# Altium integrated library Lattice FPGA XP2.IntLib: 160 symbols (part 7 of 35)
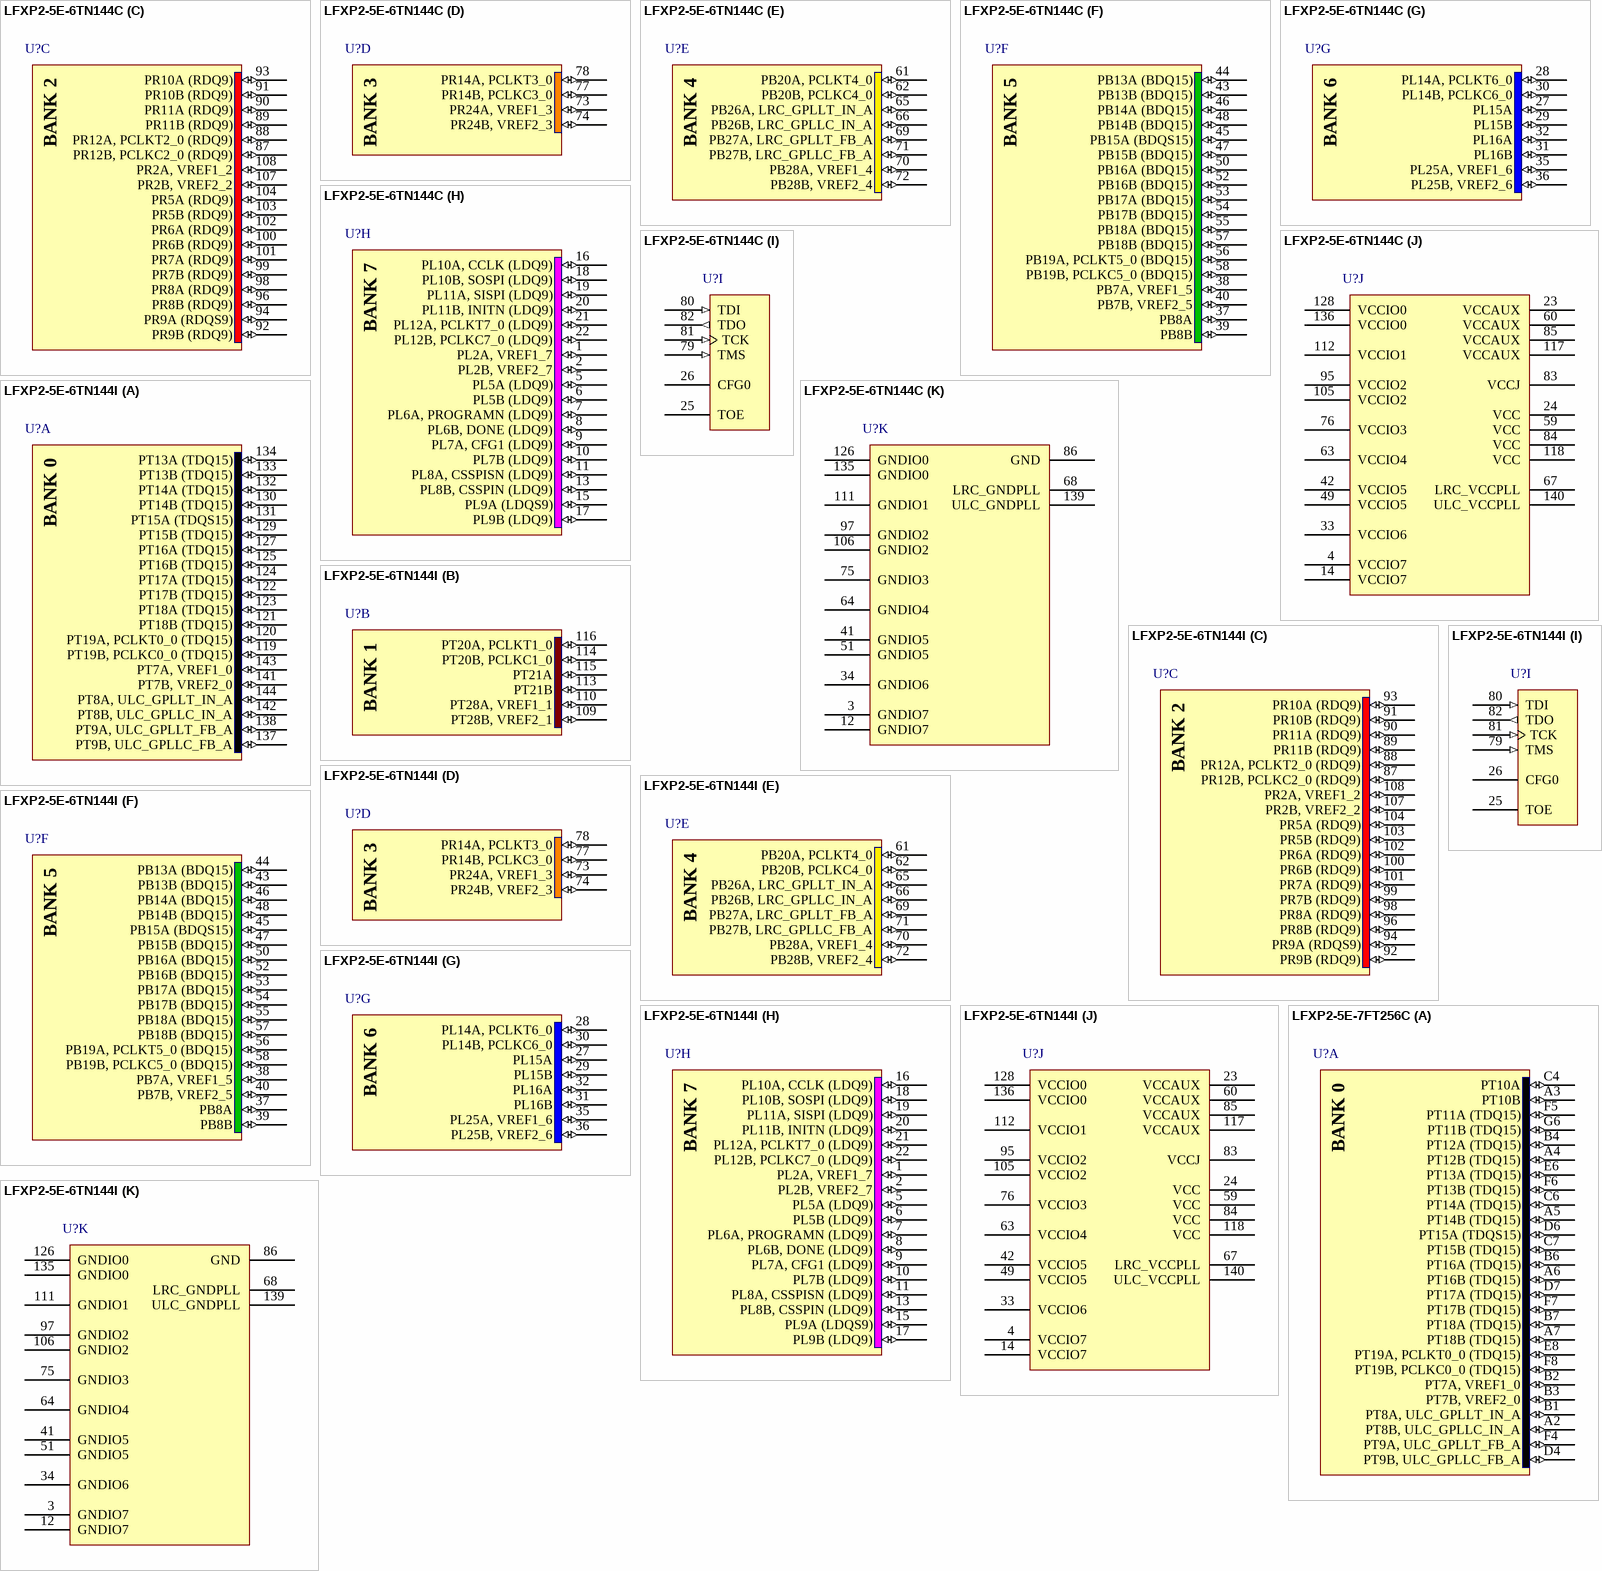
[diagram p176: symbols LFXP2-5E-6TN144C to LFXP2-5E-7FT256C]

## LFXP2-5E-6TN144I
designator U?
XP2, 1.2V FPGA, 100 I/Os, 5K LUTs, 144-Pin TQFP, Speed Grade 6, Industrial Grade, Pb-Free; DatasheetVersion: ver01.8, Jun-2008; PackageVersion: ver02.8, Jul-2011; PackageReference: TQFP144; PackageDescription: 144-Pin Thin Quad Flat Pack (TQFP144); Code_JEDEC: MS-026-BFB; ComponentLink1Description: Manufacturer URL; ComponentLink1URL: http://www.latticesemi.com/; ComponentLink2Description: Datasheet; ComponentLink2URL: http://www.latticesemi.com/documents/DS1009.pdf; ComponentLink3Description: Package Specification; ComponentLink3URL: http://www.latticesemi.com/lit/docs/package/pkg.pdf
footprint TQFP144_N (Thin QFP, 144-Leads, Body 20x20mm, Pitch 0.5mm, IPC Medium Density)
footprint TQFP144_L (Thin QFP, 144-Leads, Body 20x20mm, Pitch 0.5mm, IPC High Density)
footprint TQFP144_M (Thin QFP, 144-Leads, Body 20x20mm, Pitch 0.5mm, IPC Low Density)
part A pins: 119 PT19B, PCLKC0_0 (TDQ15) (io), 120 PT19A, PCLKT0_0 (TDQ15) (io), 121 PT18B (TDQ15) (io), 122 PT17B (TDQ15) (io), 123 PT18A (TDQ15) (io), 124 PT17A (TDQ15) (io), 125 PT16B (TDQ15) (io), 127 PT16A (TDQ15) (io), 129 PT15B (TDQ15) (io), 130 PT14B (TDQ15) (io), 131 PT15A (TDQS15) (io), 132 PT14A (TDQ15) (io), 133 PT13B (TDQ15) (io), 134 PT13A (TDQ15) (io), 137 PT9B, ULC_GPLLC_FB_A (io), 138 PT9A, ULC_GPLLT_FB_A (io), 141 PT7B, VREF2_0 (io), 142 PT8B, ULC_GPLLC_IN_A (io), 143 PT7A, VREF1_0 (io), 144 PT8A, ULC_GPLLT_IN_A (io)
part B pins: 109 PT28B, VREF2_1 (io), 110 PT28A, VREF1_1 (io), 113 PT21B (io), 114 PT20B, PCLKC1_0 (io), 115 PT21A (io), 116 PT20A, PCLKT1_0 (io)
part C pins: 87 PR12B, PCLKC2_0 (RDQ9) (io), 88 PR12A, PCLKT2_0 (RDQ9) (io), 89 PR11B (RDQ9) (io), 90 PR11A (RDQ9) (io), 91 PR10B (RDQ9) (io), 92 PR9B (RDQ9) (io), 93 PR10A (RDQ9) (io), 94 PR9A (RDQS9) (io), 96 PR8B (RDQ9) (io), 98 PR8A (RDQ9) (io), 99 PR7B (RDQ9) (io), 100 PR6B (RDQ9) (io), 101 PR7A (RDQ9) (io), 102 PR6A (RDQ9) (io), 103 PR5B (RDQ9) (io), 104 PR5A (RDQ9) (io), 107 PR2B, VREF2_2 (io), 108 PR2A, VREF1_2 (io)
part D pins: 73 PR24A, VREF1_3 (io), 74 PR24B, VREF2_3 (io), 77 PR14B, PCLKC3_0 (io), 78 PR14A, PCLKT3_0 (io)
part E pins: 61 PB20A, PCLKT4_0 (io), 62 PB20B, PCLKC4_0 (io), 65 PB26A, LRC_GPLLT_IN_A (io), 66 PB26B, LRC_GPLLC_IN_A (io), 69 PB27A, LRC_GPLLT_FB_A (io), 70 PB28A, VREF1_4 (io), 71 PB27B, LRC_GPLLC_FB_A (io), 72 PB28B, VREF2_4 (io)
part F pins: 37 PB8A (io), 38 PB7A, VREF1_5 (io), 39 PB8B (io), 40 PB7B, VREF2_5 (io), 43 PB13B (BDQ15) (io), 44 PB13A (BDQ15) (io), 45 PB15A (BDQS15) (io), 46 PB14A (BDQ15) (io), 47 PB15B (BDQ15) (io), 48 PB14B (BDQ15) (io), 50 PB16A (BDQ15) (io), 52 PB16B (BDQ15) (io), 53 PB17A (BDQ15) (io), 54 PB17B (BDQ15) (io), 55 PB18A (BDQ15) (io), 56 PB19A, PCLKT5_0 (BDQ15) (io), 57 PB18B (BDQ15) (io), 58 PB19B, PCLKC5_0 (BDQ15) (io)
part G pins: 27 PL15A (io), 28 PL14A, PCLKT6_0 (io), 29 PL15B (io), 30 PL14B, PCLKC6_0 (io), 31 PL16B (io), 32 PL16A (io), 35 PL25A, VREF1_6 (io), 36 PL25B, VREF2_6 (io)
part H pins: 1 PL2A, VREF1_7 (io), 2 PL2B, VREF2_7 (io), 5 PL5A (LDQ9) (io), 6 PL5B (LDQ9) (io), 7 PL6A, PROGRAMN (LDQ9) (io), 8 PL6B, DONE (LDQ9) (io), 9 PL7A, CFG1 (LDQ9) (io), 10 PL7B (LDQ9) (io), 11 PL8A, CSSPISN (LDQ9) (io), 13 PL8B, CSSPIN (LDQ9) (io), 15 PL9A (LDQS9) (io), 16 PL10A, CCLK (LDQ9) (io), 17 PL9B (LDQ9) (io), 18 PL10B, SOSPI (LDQ9) (io), 19 PL11A, SISPI (LDQ9) (io), 20 PL11B, INITN (LDQ9) (io), 21 PL12A, PCLKT7_0 (LDQ9) (io), 22 PL12B, PCLKC7_0 (LDQ9) (io)
part I pins: 25 TOE, 26 CFG0, 79 TMS (in), 80 TDI (in), 81 TCK (in), 82 TDO (out)
part J pins: 4 VCCIO7 (power), 14 VCCIO7 (power), 23 VCCAUX (power), 24 VCC (power), 33 VCCIO6 (power), 42 VCCIO5 (power), 49 VCCIO5 (power), 59 VCC (power), 60 VCCAUX (power), 63 VCCIO4 (power), 67 LRC_VCCPLL (power), 76 VCCIO3 (power), 83 VCCJ (power), 84 VCC (power), 85 VCCAUX (power), 95 VCCIO2 (power), 105 VCCIO2 (power), 112 VCCIO1 (power), 117 VCCAUX (power), 118 VCC (power), 128 VCCIO0 (power), 136 VCCIO0 (power), 140 ULC_VCCPLL (power)
part K pins: 3 GNDIO7 (power), 12 GNDIO7 (power), 34 GNDIO6 (power), 41 GNDIO5 (power), 51 GNDIO5 (power), 64 GNDIO4 (power), 68 LRC_GNDPLL (power), 75 GNDIO3 (power), 86 GND (power), 97 GNDIO2 (power), 106 GNDIO2 (power), 111 GNDIO1 (power), 126 GNDIO0 (power), 135 GNDIO0 (power), 139 ULC_GNDPLL (power)
part A text: BANK 0
part B text: BANK 1
part C text: BANK 2
part D text: BANK 3
part E text: BANK 4
part F text: BANK 5
part G text: BANK 6
part H text: BANK 7

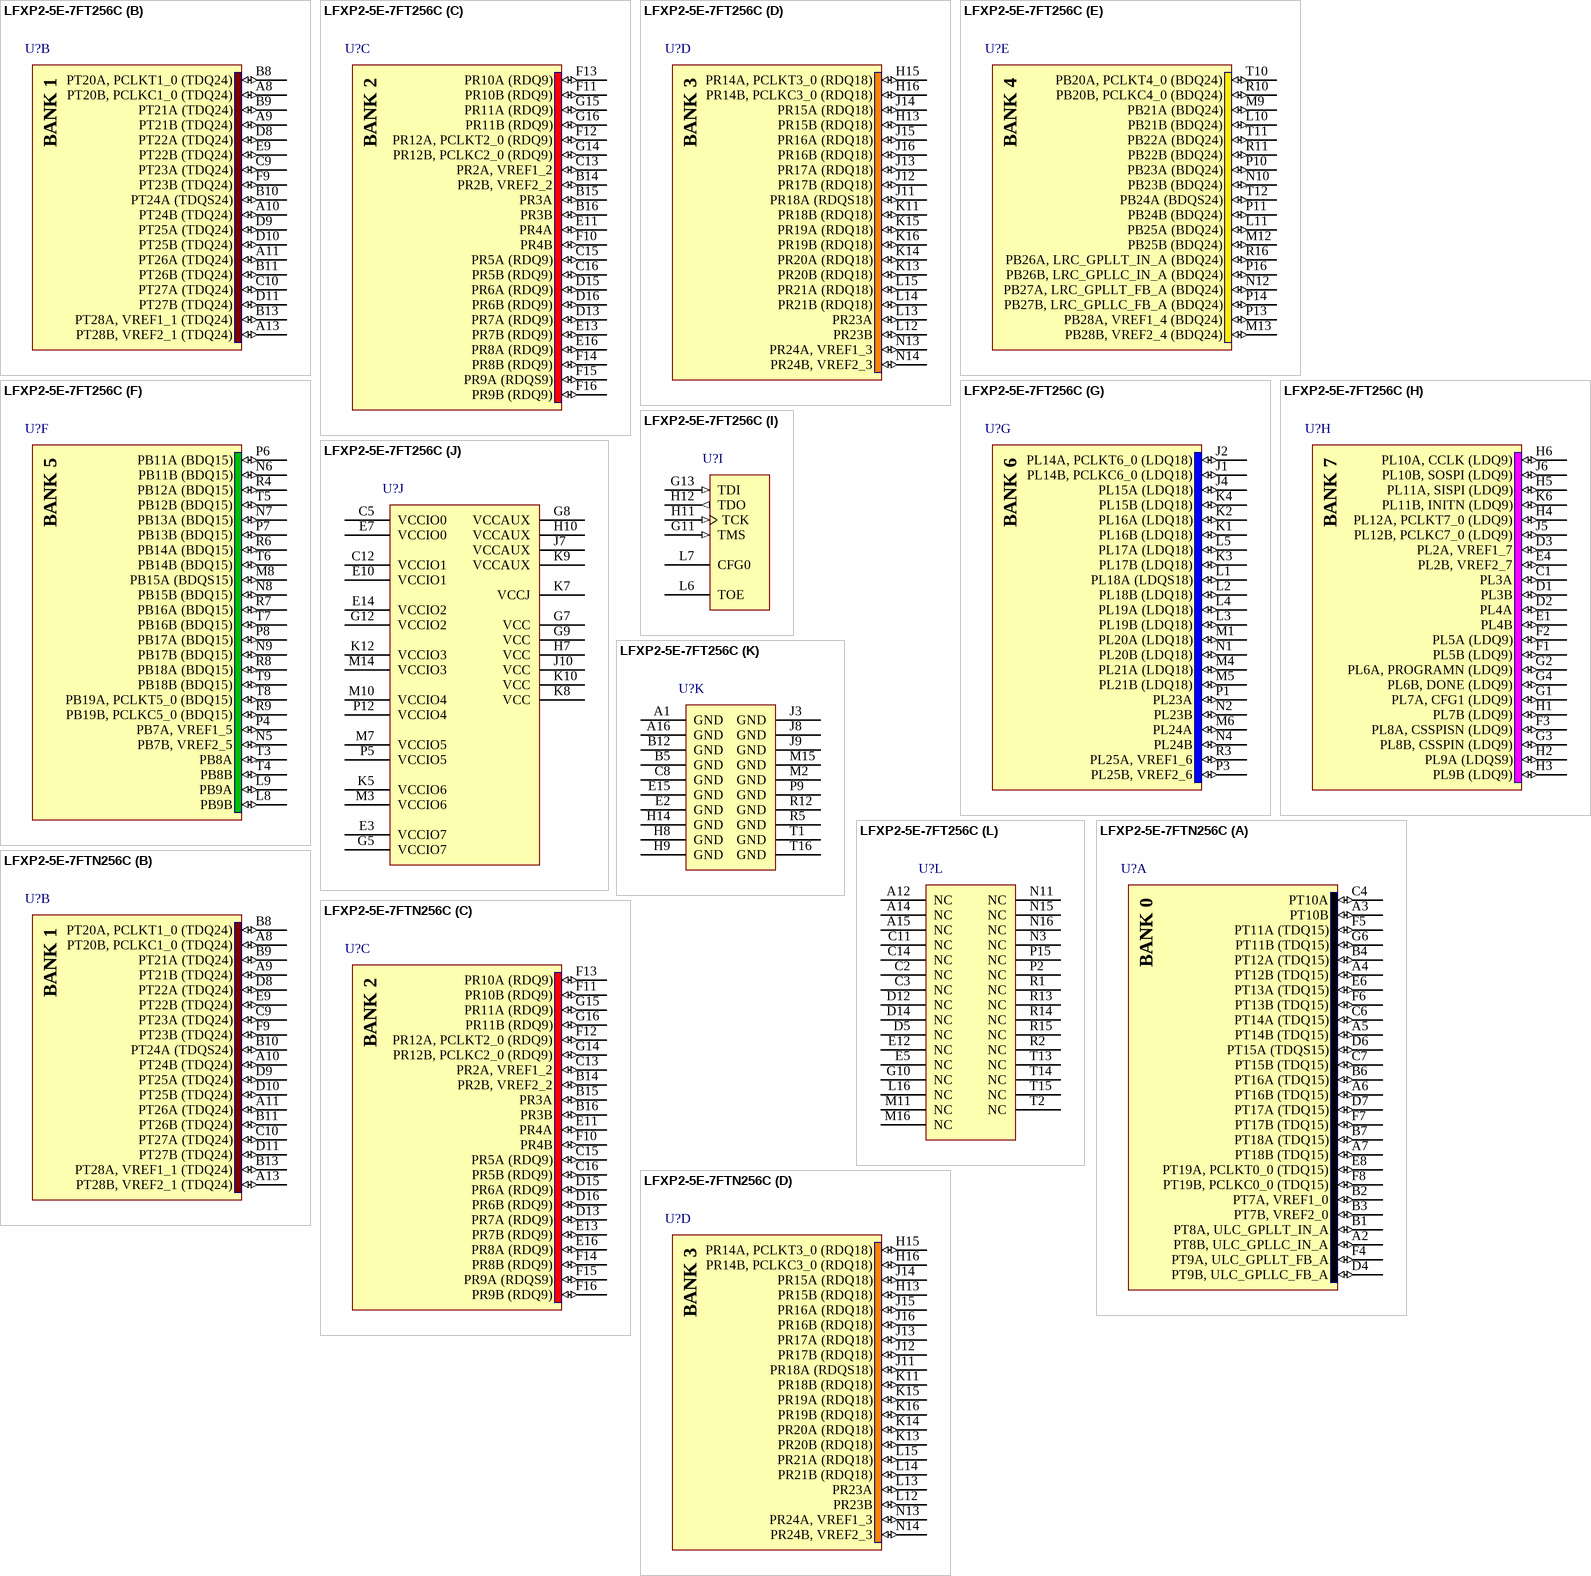
[diagram p20: symbols LFXP2-5E-7FT256C to LFXP2-5E-7FTN256C]

## LFXP2-5E-7FT256C
designator U?
XP2, 1.2V FPGA, 172 I/Os, 5K LUTs, 256-Pin ftBGA, Speed Grade 7, Commercial Grade; DatasheetVersion: ver01.8, Jun-2008; PackageVersion: ver02.8, Jul-2011; PackageReference: ftBGA256; PackageDescription: 256-Ball Fine Thin Ball Grid Array (ftBGA256); ComponentLink1Description: Manufacturer URL; ComponentLink1URL: http://www.latticesemi.com/; ComponentLink2Description: Datasheet; ComponentLink2URL: http://www.latticesemi.com/documents/DS1009.pdf; ComponentLink3Description: Package Specification; ComponentLink3URL: http://www.latticesemi.com/lit/docs/package/pkg.pdf
footprint ftBGA256 (BGA, 256-Leads, Body 17x17mm, Pitch 1mm)
part A pins: A2 PT8B, ULC_GPLLC_IN_A (io), A3 PT10B (io), A4 PT12B (TDQ15) (io), A5 PT14B (TDQ15) (io), A6 PT16B (TDQ15) (io), A7 PT18B (TDQ15) (io), B1 PT8A, ULC_GPLLT_IN_A (io), B2 PT7A, VREF1_0 (io), B3 PT7B, VREF2_0 (io), B4 PT12A (TDQ15) (io), B6 PT16A (TDQ15) (io), B7 PT18A (TDQ15) (io), C4 PT10A (io), C6 PT14A (TDQ15) (io), C7 PT15B (TDQ15) (io), D4 PT9B, ULC_GPLLC_FB_A (io), D6 PT15A (TDQS15) (io), D7 PT17A (TDQ15) (io), E6 PT13A (TDQ15) (io), E8 PT19A, PCLKT0_0 (TDQ15) (io), F4 PT9A, ULC_GPLLT_FB_A (io), F5 PT11A (TDQ15) (io), F6 PT13B (TDQ15) (io), F7 PT17B (TDQ15) (io), F8 PT19B, PCLKC0_0 (TDQ15) (io), G6 PT11B (TDQ15) (io)
part B pins: A8 PT20B, PCLKC1_0 (TDQ24) (io), A9 PT21B (TDQ24) (io), A10 PT24B (TDQ24) (io), A11 PT26A (TDQ24) (io), A13 PT28B, VREF2_1 (TDQ24) (io), B8 PT20A, PCLKT1_0 (TDQ24) (io), B9 PT21A (TDQ24) (io), B10 PT24A (TDQS24) (io), B11 PT26B (TDQ24) (io), B13 PT28A, VREF1_1 (TDQ24) (io), C9 PT23A (TDQ24) (io), C10 PT27A (TDQ24) (io), D8 PT22A (TDQ24) (io), D9 PT25A (TDQ24) (io), D10 PT25B (TDQ24) (io), D11 PT27B (TDQ24) (io), E9 PT22B (TDQ24) (io), F9 PT23B (TDQ24) (io)
part C pins: B14 PR2B, VREF2_2 (io), B15 PR3A (io), B16 PR3B (io), C13 PR2A, VREF1_2 (io), C15 PR5A (RDQ9) (io), C16 PR5B (RDQ9) (io), D13 PR7A (RDQ9) (io), D15 PR6A (RDQ9) (io), D16 PR6B (RDQ9) (io), E11 PR4A (io), E13 PR7B (RDQ9) (io), E16 PR8A (RDQ9) (io), F10 PR4B (io), F11 PR10B (RDQ9) (io), F12 PR12A, PCLKT2_0 (RDQ9) (io), F13 PR10A (RDQ9) (io), F14 PR8B (RDQ9) (io), F15 PR9A (RDQS9) (io), F16 PR9B (RDQ9) (io), G14 PR12B, PCLKC2_0 (RDQ9) (io), G15 PR11A (RDQ9) (io), G16 PR11B (RDQ9) (io)
part D pins: H13 PR15B (RDQ18) (io), H15 PR14A, PCLKT3_0 (RDQ18) (io), H16 PR14B, PCLKC3_0 (RDQ18) (io), J11 PR18A (RDQS18) (io), J12 PR17B (RDQ18) (io), J13 PR17A (RDQ18) (io), J14 PR15A (RDQ18) (io), J15 PR16A (RDQ18) (io), J16 PR16B (RDQ18) (io), K11 PR18B (RDQ18) (io), K13 PR20B (RDQ18) (io), K14 PR20A (RDQ18) (io), K15 PR19A (RDQ18) (io), K16 PR19B (RDQ18) (io), L12 PR23B (io), L13 PR23A (io), L14 PR21B (RDQ18) (io), L15 PR21A (RDQ18) (io), N13 PR24A, VREF1_3 (io), N14 PR24B, VREF2_3 (io)
part E pins: L10 PB21B (BDQ24) (io), L11 PB25A (BDQ24) (io), M9 PB21A (BDQ24) (io), M12 PB25B (BDQ24) (io), M13 PB28B, VREF2_4 (BDQ24) (io), N10 PB23B (BDQ24) (io), N12 PB27A, LRC_GPLLT_FB_A (BDQ24) (io), P10 PB23A (BDQ24) (io), P11 PB24B (BDQ24) (io), P13 PB28A, VREF1_4 (BDQ24) (io), P14 PB27B, LRC_GPLLC_FB_A (BDQ24) (io), P16 PB26B, LRC_GPLLC_IN_A (BDQ24) (io), R10 PB20B, PCLKC4_0 (BDQ24) (io), R11 PB22B (BDQ24) (io), R16 PB26A, LRC_GPLLT_IN_A (BDQ24) (io), T10 PB20A, PCLKT4_0 (BDQ24) (io), T11 PB22A (BDQ24) (io), T12 PB24A (BDQS24) (io)
part F pins: L8 PB9B (io), L9 PB9A (io), M8 PB15A (BDQS15) (io), N5 PB7B, VREF2_5 (io), N6 PB11B (BDQ15) (io), N7 PB13A (BDQ15) (io), N8 PB15B (BDQ15) (io), N9 PB17B (BDQ15) (io), P4 PB7A, VREF1_5 (io), P6 PB11A (BDQ15) (io), P7 PB13B (BDQ15) (io), P8 PB17A (BDQ15) (io), R4 PB12A (BDQ15) (io), R6 PB14A (BDQ15) (io), R7 PB16A (BDQ15) (io), R8 PB18A (BDQ15) (io), R9 PB19B, PCLKC5_0 (BDQ15) (io), T3 PB8A (io), T4 PB8B (io), T5 PB12B (BDQ15) (io), T6 PB14B (BDQ15) (io), T7 PB16B (BDQ15) (io), T8 PB19A, PCLKT5_0 (BDQ15) (io), T9 PB18B (BDQ15) (io)
part G pins: J1 PL14B, PCLKC6_0 (LDQ18) (io), J2 PL14A, PCLKT6_0 (LDQ18) (io), J4 PL15A (LDQ18) (io), K1 PL16B (LDQ18) (io), K2 PL16A (LDQ18) (io), K3 PL17B (LDQ18) (io), K4 PL15B (LDQ18) (io), L1 PL18A (LDQS18) (io), L2 PL18B (LDQ18) (io), L3 PL19B (LDQ18) (io), L4 PL19A (LDQ18) (io), L5 PL17A (LDQ18) (io), M1 PL20A (LDQ18) (io), M4 PL21A (LDQ18) (io), M5 PL21B (LDQ18) (io), M6 PL24A (io), N1 PL20B (LDQ18) (io), N2 PL23B (io), N4 PL24B (io), P1 PL23A (io), P3 PL25B, VREF2_6 (io), R3 PL25A, VREF1_6 (io)
part H pins: C1 PL3A (io), D1 PL3B (io), D2 PL4A (io), D3 PL2A, VREF1_7 (io), E1 PL4B (io), E4 PL2B, VREF2_7 (io), F1 PL5B (LDQ9) (io), F2 PL5A (LDQ9) (io), F3 PL8A, CSSPISN (LDQ9) (io), G1 PL7A, CFG1 (LDQ9) (io), G2 PL6A, PROGRAMN (LDQ9) (io), G3 PL8B, CSSPIN (LDQ9) (io), G4 PL6B, DONE (LDQ9) (io), H1 PL7B (LDQ9) (io), H2 PL9A (LDQS9) (io), H3 PL9B (LDQ9) (io), H4 PL12A, PCLKT7_0 (LDQ9) (io), H5 PL11A, SISPI (LDQ9) (io), H6 PL10A, CCLK (LDQ9) (io), J5 PL12B, PCLKC7_0 (LDQ9) (io), J6 PL10B, SOSPI (LDQ9) (io), K6 PL11B, INITN (LDQ9) (io)
part I pins: G11 TMS (in), G13 TDI (in), H11 TCK (in), H12 TDO (out), L6 TOE, L7 CFG0
part J pins: C5 VCCIO0 (power), C12 VCCIO1 (power), E3 VCCIO7 (power), E7 VCCIO0 (power), E10 VCCIO1 (power), E14 VCCIO2 (power), G5 VCCIO7 (power), G7 VCC (power), G8 VCCAUX (power), G9 VCC (power), G12 VCCIO2 (power), H7 VCC (power), H10 VCCAUX (power), J7 VCCAUX (power), J10 VCC (power), K5 VCCIO6 (power), K7 VCCJ (power), K8 VCC (power), K9 VCCAUX (power), K10 VCC (power), K12 VCCIO3 (power), M3 VCCIO6 (power), M7 VCCIO5 (power), M10 VCCIO4 (power), M14 VCCIO3 (power), P5 VCCIO5 (power), P12 VCCIO4 (power)
part K pins: A1 GND (power), A16 GND (power), B5 GND (power), B12 GND (power), C8 GND (power), E2 GND (power), E15 GND (power), H8 GND (power), H9 GND (power), H14 GND (power), J3 GND (power), J8 GND (power), J9 GND (power), M2 GND (power), M15 GND (power), P9 GND (power), R5 GND (power), R12 GND (power), T1 GND (power), T16 GND (power)
part L pins: A12 NC, A14 NC, A15 NC, C2 NC, C3 NC, C11 NC, C14 NC, D5 NC, D12 NC, D14 NC, E5 NC, E12 NC, G10 NC, L16 NC, M11 NC, M16 NC, N3 NC, N11 NC, N15 NC, N16 NC, P2 NC, P15 NC, R1 NC, R2 NC, R13 NC, R14 NC, R15 NC, T2 NC, T13 NC, T14 NC, T15 NC
part A text: BANK 0
part B text: BANK 1
part C text: BANK 2
part D text: BANK 3
part E text: BANK 4
part F text: BANK 5
part G text: BANK 6
part H text: BANK 7

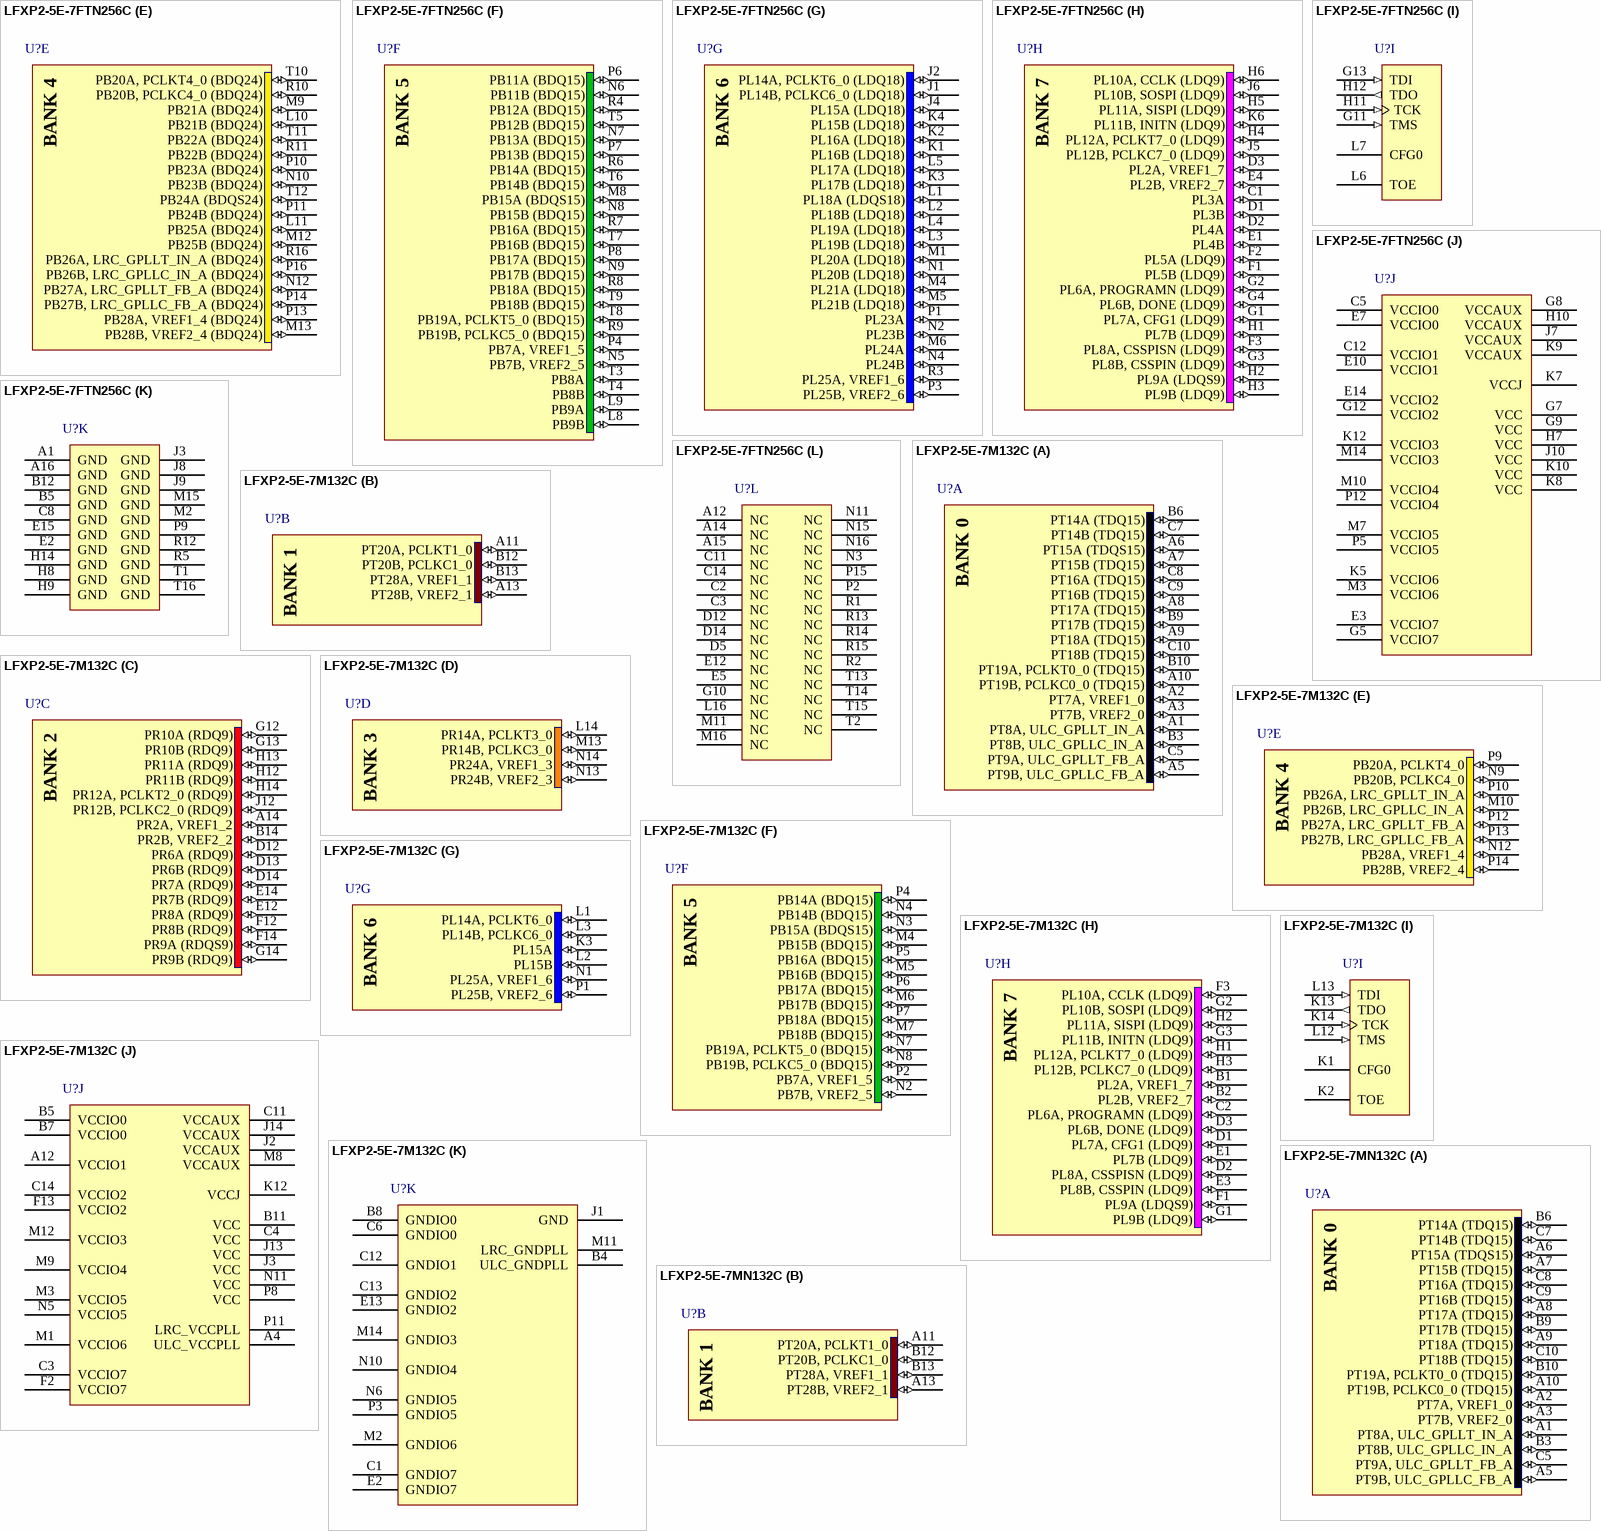
[diagram p21: symbols LFXP2-5E-7FTN256C to LFXP2-5E-7MN132C]

## LFXP2-5E-7FTN256C
designator U?
XP2, 1.2V FPGA, 172 I/Os, 5K LUTs, 256-Pin ftBGA, Speed Grade 7, Commercial Grade, Pb-Free; DatasheetVersion: ver01.8, Jun-2008; PackageVersion: ver02.8, Jul-2011; PackageReference: ftBGA256; PackageDescription: 256-Ball Fine Thin Ball Grid Array (ftBGA256); ComponentLink1Description: Manufacturer URL; ComponentLink1URL: http://www.latticesemi.com/; ComponentLink2Description: Datasheet; ComponentLink2URL: http://www.latticesemi.com/documents/DS1009.pdf; ComponentLink3Description: Package Specification; ComponentLink3URL: http://www.latticesemi.com/lit/docs/package/pkg.pdf
footprint ftBGA256 (BGA, 256-Leads, Body 17x17mm, Pitch 1mm)
part A pins: A2 PT8B, ULC_GPLLC_IN_A (io), A3 PT10B (io), A4 PT12B (TDQ15) (io), A5 PT14B (TDQ15) (io), A6 PT16B (TDQ15) (io), A7 PT18B (TDQ15) (io), B1 PT8A, ULC_GPLLT_IN_A (io), B2 PT7A, VREF1_0 (io), B3 PT7B, VREF2_0 (io), B4 PT12A (TDQ15) (io), B6 PT16A (TDQ15) (io), B7 PT18A (TDQ15) (io), C4 PT10A (io), C6 PT14A (TDQ15) (io), C7 PT15B (TDQ15) (io), D4 PT9B, ULC_GPLLC_FB_A (io), D6 PT15A (TDQS15) (io), D7 PT17A (TDQ15) (io), E6 PT13A (TDQ15) (io), E8 PT19A, PCLKT0_0 (TDQ15) (io), F4 PT9A, ULC_GPLLT_FB_A (io), F5 PT11A (TDQ15) (io), F6 PT13B (TDQ15) (io), F7 PT17B (TDQ15) (io), F8 PT19B, PCLKC0_0 (TDQ15) (io), G6 PT11B (TDQ15) (io)
part B pins: A8 PT20B, PCLKC1_0 (TDQ24) (io), A9 PT21B (TDQ24) (io), A10 PT24B (TDQ24) (io), A11 PT26A (TDQ24) (io), A13 PT28B, VREF2_1 (TDQ24) (io), B8 PT20A, PCLKT1_0 (TDQ24) (io), B9 PT21A (TDQ24) (io), B10 PT24A (TDQS24) (io), B11 PT26B (TDQ24) (io), B13 PT28A, VREF1_1 (TDQ24) (io), C9 PT23A (TDQ24) (io), C10 PT27A (TDQ24) (io), D8 PT22A (TDQ24) (io), D9 PT25A (TDQ24) (io), D10 PT25B (TDQ24) (io), D11 PT27B (TDQ24) (io), E9 PT22B (TDQ24) (io), F9 PT23B (TDQ24) (io)
part C pins: B14 PR2B, VREF2_2 (io), B15 PR3A (io), B16 PR3B (io), C13 PR2A, VREF1_2 (io), C15 PR5A (RDQ9) (io), C16 PR5B (RDQ9) (io), D13 PR7A (RDQ9) (io), D15 PR6A (RDQ9) (io), D16 PR6B (RDQ9) (io), E11 PR4A (io), E13 PR7B (RDQ9) (io), E16 PR8A (RDQ9) (io), F10 PR4B (io), F11 PR10B (RDQ9) (io), F12 PR12A, PCLKT2_0 (RDQ9) (io), F13 PR10A (RDQ9) (io), F14 PR8B (RDQ9) (io), F15 PR9A (RDQS9) (io), F16 PR9B (RDQ9) (io), G14 PR12B, PCLKC2_0 (RDQ9) (io), G15 PR11A (RDQ9) (io), G16 PR11B (RDQ9) (io)
part D pins: H13 PR15B (RDQ18) (io), H15 PR14A, PCLKT3_0 (RDQ18) (io), H16 PR14B, PCLKC3_0 (RDQ18) (io), J11 PR18A (RDQS18) (io), J12 PR17B (RDQ18) (io), J13 PR17A (RDQ18) (io), J14 PR15A (RDQ18) (io), J15 PR16A (RDQ18) (io), J16 PR16B (RDQ18) (io), K11 PR18B (RDQ18) (io), K13 PR20B (RDQ18) (io), K14 PR20A (RDQ18) (io), K15 PR19A (RDQ18) (io), K16 PR19B (RDQ18) (io), L12 PR23B (io), L13 PR23A (io), L14 PR21B (RDQ18) (io), L15 PR21A (RDQ18) (io), N13 PR24A, VREF1_3 (io), N14 PR24B, VREF2_3 (io)
part E pins: L10 PB21B (BDQ24) (io), L11 PB25A (BDQ24) (io), M9 PB21A (BDQ24) (io), M12 PB25B (BDQ24) (io), M13 PB28B, VREF2_4 (BDQ24) (io), N10 PB23B (BDQ24) (io), N12 PB27A, LRC_GPLLT_FB_A (BDQ24) (io), P10 PB23A (BDQ24) (io), P11 PB24B (BDQ24) (io), P13 PB28A, VREF1_4 (BDQ24) (io), P14 PB27B, LRC_GPLLC_FB_A (BDQ24) (io), P16 PB26B, LRC_GPLLC_IN_A (BDQ24) (io), R10 PB20B, PCLKC4_0 (BDQ24) (io), R11 PB22B (BDQ24) (io), R16 PB26A, LRC_GPLLT_IN_A (BDQ24) (io), T10 PB20A, PCLKT4_0 (BDQ24) (io), T11 PB22A (BDQ24) (io), T12 PB24A (BDQS24) (io)
part F pins: L8 PB9B (io), L9 PB9A (io), M8 PB15A (BDQS15) (io), N5 PB7B, VREF2_5 (io), N6 PB11B (BDQ15) (io), N7 PB13A (BDQ15) (io), N8 PB15B (BDQ15) (io), N9 PB17B (BDQ15) (io), P4 PB7A, VREF1_5 (io), P6 PB11A (BDQ15) (io), P7 PB13B (BDQ15) (io), P8 PB17A (BDQ15) (io), R4 PB12A (BDQ15) (io), R6 PB14A (BDQ15) (io), R7 PB16A (BDQ15) (io), R8 PB18A (BDQ15) (io), R9 PB19B, PCLKC5_0 (BDQ15) (io), T3 PB8A (io), T4 PB8B (io), T5 PB12B (BDQ15) (io), T6 PB14B (BDQ15) (io), T7 PB16B (BDQ15) (io), T8 PB19A, PCLKT5_0 (BDQ15) (io), T9 PB18B (BDQ15) (io)
part G pins: J1 PL14B, PCLKC6_0 (LDQ18) (io), J2 PL14A, PCLKT6_0 (LDQ18) (io), J4 PL15A (LDQ18) (io), K1 PL16B (LDQ18) (io), K2 PL16A (LDQ18) (io), K3 PL17B (LDQ18) (io), K4 PL15B (LDQ18) (io), L1 PL18A (LDQS18) (io), L2 PL18B (LDQ18) (io), L3 PL19B (LDQ18) (io), L4 PL19A (LDQ18) (io), L5 PL17A (LDQ18) (io), M1 PL20A (LDQ18) (io), M4 PL21A (LDQ18) (io), M5 PL21B (LDQ18) (io), M6 PL24A (io), N1 PL20B (LDQ18) (io), N2 PL23B (io), N4 PL24B (io), P1 PL23A (io), P3 PL25B, VREF2_6 (io), R3 PL25A, VREF1_6 (io)
part H pins: C1 PL3A (io), D1 PL3B (io), D2 PL4A (io), D3 PL2A, VREF1_7 (io), E1 PL4B (io), E4 PL2B, VREF2_7 (io), F1 PL5B (LDQ9) (io), F2 PL5A (LDQ9) (io), F3 PL8A, CSSPISN (LDQ9) (io), G1 PL7A, CFG1 (LDQ9) (io), G2 PL6A, PROGRAMN (LDQ9) (io), G3 PL8B, CSSPIN (LDQ9) (io), G4 PL6B, DONE (LDQ9) (io), H1 PL7B (LDQ9) (io), H2 PL9A (LDQS9) (io), H3 PL9B (LDQ9) (io), H4 PL12A, PCLKT7_0 (LDQ9) (io), H5 PL11A, SISPI (LDQ9) (io), H6 PL10A, CCLK (LDQ9) (io), J5 PL12B, PCLKC7_0 (LDQ9) (io), J6 PL10B, SOSPI (LDQ9) (io), K6 PL11B, INITN (LDQ9) (io)
part I pins: G11 TMS (in), G13 TDI (in), H11 TCK (in), H12 TDO (out), L6 TOE, L7 CFG0
part J pins: C5 VCCIO0 (power), C12 VCCIO1 (power), E3 VCCIO7 (power), E7 VCCIO0 (power), E10 VCCIO1 (power), E14 VCCIO2 (power), G5 VCCIO7 (power), G7 VCC (power), G8 VCCAUX (power), G9 VCC (power), G12 VCCIO2 (power), H7 VCC (power), H10 VCCAUX (power), J7 VCCAUX (power), J10 VCC (power), K5 VCCIO6 (power), K7 VCCJ (power), K8 VCC (power), K9 VCCAUX (power), K10 VCC (power), K12 VCCIO3 (power), M3 VCCIO6 (power), M7 VCCIO5 (power), M10 VCCIO4 (power), M14 VCCIO3 (power), P5 VCCIO5 (power), P12 VCCIO4 (power)
part K pins: A1 GND (power), A16 GND (power), B5 GND (power), B12 GND (power), C8 GND (power), E2 GND (power), E15 GND (power), H8 GND (power), H9 GND (power), H14 GND (power), J3 GND (power), J8 GND (power), J9 GND (power), M2 GND (power), M15 GND (power), P9 GND (power), R5 GND (power), R12 GND (power), T1 GND (power), T16 GND (power)
part L pins: A12 NC, A14 NC, A15 NC, C2 NC, C3 NC, C11 NC, C14 NC, D5 NC, D12 NC, D14 NC, E5 NC, E12 NC, G10 NC, L16 NC, M11 NC, M16 NC, N3 NC, N11 NC, N15 NC, N16 NC, P2 NC, P15 NC, R1 NC, R2 NC, R13 NC, R14 NC, R15 NC, T2 NC, T13 NC, T14 NC, T15 NC
part A text: BANK 0
part B text: BANK 1
part C text: BANK 2
part D text: BANK 3
part E text: BANK 4
part F text: BANK 5
part G text: BANK 6
part H text: BANK 7

## LFXP2-5E-7M132C
designator U?
XP2, 1.2V FPGA, 86 I/Os, 5K LUTs, 132-Pin csBGA, Speed Grade 7, Commercial Grade; DatasheetVersion: ver01.8, Jun-2008; PackageVersion: ver02.8, Jul-2011; PackageReference: csBGA132; PackageDescription: 132-Ball Chip Scale Ball Grid Array (csBGA132); ComponentLink1Description: Manufacturer URL; ComponentLink1URL: http://www.latticesemi.com/; ComponentLink2Description: Datasheet; ComponentLink2URL: http://www.latticesemi.com/documents/DS1009.pdf; ComponentLink3Description: Package Specification; ComponentLink3URL: http://www.latticesemi.com/lit/docs/package/pkg.pdf
footprint csBGA132 (BGA, 132-Leads, Body 8x8mm, Pitch 0.5mm)
part A pins: A1 PT8A, ULC_GPLLT_IN_A (io), A2 PT7A, VREF1_0 (io), A3 PT7B, VREF2_0 (io), A5 PT9B, ULC_GPLLC_FB_A (io), A6 PT15A (TDQS15) (io), A7 PT15B (TDQ15) (io), A8 PT17A (TDQ15) (io), A9 PT18A (TDQ15) (io), A10 PT19B, PCLKC0_0 (TDQ15) (io), B3 PT8B, ULC_GPLLC_IN_A (io), B6 PT14A (TDQ15) (io), B9 PT17B (TDQ15) (io), B10 PT19A, PCLKT0_0 (TDQ15) (io), C5 PT9A, ULC_GPLLT_FB_A (io), C7 PT14B (TDQ15) (io), C8 PT16A (TDQ15) (io), C9 PT16B (TDQ15) (io), C10 PT18B (TDQ15) (io)
part B pins: A11 PT20A, PCLKT1_0 (io), A13 PT28B, VREF2_1 (io), B12 PT20B, PCLKC1_0 (io), B13 PT28A, VREF1_1 (io)
part C pins: A14 PR2A, VREF1_2 (io), B14 PR2B, VREF2_2 (io), D12 PR6A (RDQ9) (io), D13 PR6B (RDQ9) (io), D14 PR7A (RDQ9) (io), E12 PR8A (RDQ9) (io), E14 PR7B (RDQ9) (io), F12 PR8B (RDQ9) (io), F14 PR9A (RDQS9) (io), G12 PR10A (RDQ9) (io), G13 PR10B (RDQ9) (io), G14 PR9B (RDQ9) (io), H12 PR11B (RDQ9) (io), H13 PR11A (RDQ9) (io), H14 PR12A, PCLKT2_0 (RDQ9) (io), J12 PR12B, PCLKC2_0 (RDQ9) (io)
part D pins: L14 PR14A, PCLKT3_0 (io), M13 PR14B, PCLKC3_0 (io), N13 PR24B, VREF2_3 (io), N14 PR24A, VREF1_3 (io)
part E pins: M10 PB26B, LRC_GPLLC_IN_A (io), N9 PB20B, PCLKC4_0 (io), N12 PB28A, VREF1_4 (io), P9 PB20A, PCLKT4_0 (io), P10 PB26A, LRC_GPLLT_IN_A (io), P12 PB27A, LRC_GPLLT_FB_A (io), P13 PB27B, LRC_GPLLC_FB_A (io), P14 PB28B, VREF2_4 (io)
part F pins: M4 PB15B (BDQ15) (io), M5 PB16B (BDQ15) (io), M6 PB17B (BDQ15) (io), M7 PB18B (BDQ15) (io), N2 PB7B, VREF2_5 (io), N3 PB15A (BDQS15) (io), N4 PB14B (BDQ15) (io), N7 PB19A, PCLKT5_0 (BDQ15) (io), N8 PB19B, PCLKC5_0 (BDQ15) (io), P2 PB7A, VREF1_5 (io), P4 PB14A (BDQ15) (io), P5 PB16A (BDQ15) (io), P6 PB17A (BDQ15) (io), P7 PB18A (BDQ15) (io)
part G pins: K3 PL15A (io), L1 PL14A, PCLKT6_0 (io), L2 PL15B (io), L3 PL14B, PCLKC6_0 (io), N1 PL25A, VREF1_6 (io), P1 PL25B, VREF2_6 (io)
part H pins: B1 PL2A, VREF1_7 (io), B2 PL2B, VREF2_7 (io), C2 PL6A, PROGRAMN (LDQ9) (io), D1 PL7A, CFG1 (LDQ9) (io), D2 PL8A, CSSPISN (LDQ9) (io), D3 PL6B, DONE (LDQ9) (io), E1 PL7B (LDQ9) (io), E3 PL8B, CSSPIN (LDQ9) (io), F1 PL9A (LDQS9) (io), F3 PL10A, CCLK (LDQ9) (io), G1 PL9B (LDQ9) (io), G2 PL10B, SOSPI (LDQ9) (io), G3 PL11B, INITN (LDQ9) (io), H1 PL12A, PCLKT7_0 (LDQ9) (io), H2 PL11A, SISPI (LDQ9) (io), H3 PL12B, PCLKC7_0 (LDQ9) (io)
part I pins: K1 CFG0, K2 TOE, K13 TDO (out), K14 TCK (in), L12 TMS (in), L13 TDI (in)
part J pins: A4 ULC_VCCPLL (power), A12 VCCIO1 (power), B5 VCCIO0 (power), B7 VCCIO0 (power), B11 VCC (power), C3 VCCIO7 (power), C4 VCC (power), C11 VCCAUX (power), C14 VCCIO2 (power), F2 VCCIO7 (power), F13 VCCIO2 (power), J2 VCCAUX (power), J3 VCC (power), J13 VCC (power), J14 VCCAUX (power), K12 VCCJ (power), M1 VCCIO6 (power), M3 VCCIO5 (power), M8 VCCAUX (power), M9 VCCIO4 (power), M12 VCCIO3 (power), N5 VCCIO5 (power), N11 VCC (power), P8 VCC (power), P11 LRC_VCCPLL (power)
part K pins: B4 ULC_GNDPLL (power), B8 GNDIO0 (power), C1 GNDIO7 (power), C6 GNDIO0 (power), C12 GNDIO1 (power), C13 GNDIO2 (power), E2 GNDIO7 (power), E13 GNDIO2 (power), J1 GND (power), M2 GNDIO6 (power), M11 LRC_GNDPLL (power), M14 GNDIO3 (power), N6 GNDIO5 (power), N10 GNDIO4 (power), P3 GNDIO5 (power)
part A text: BANK 0
part B text: BANK 1
part C text: BANK 2
part D text: BANK 3
part E text: BANK 4
part F text: BANK 5
part G text: BANK 6
part H text: BANK 7

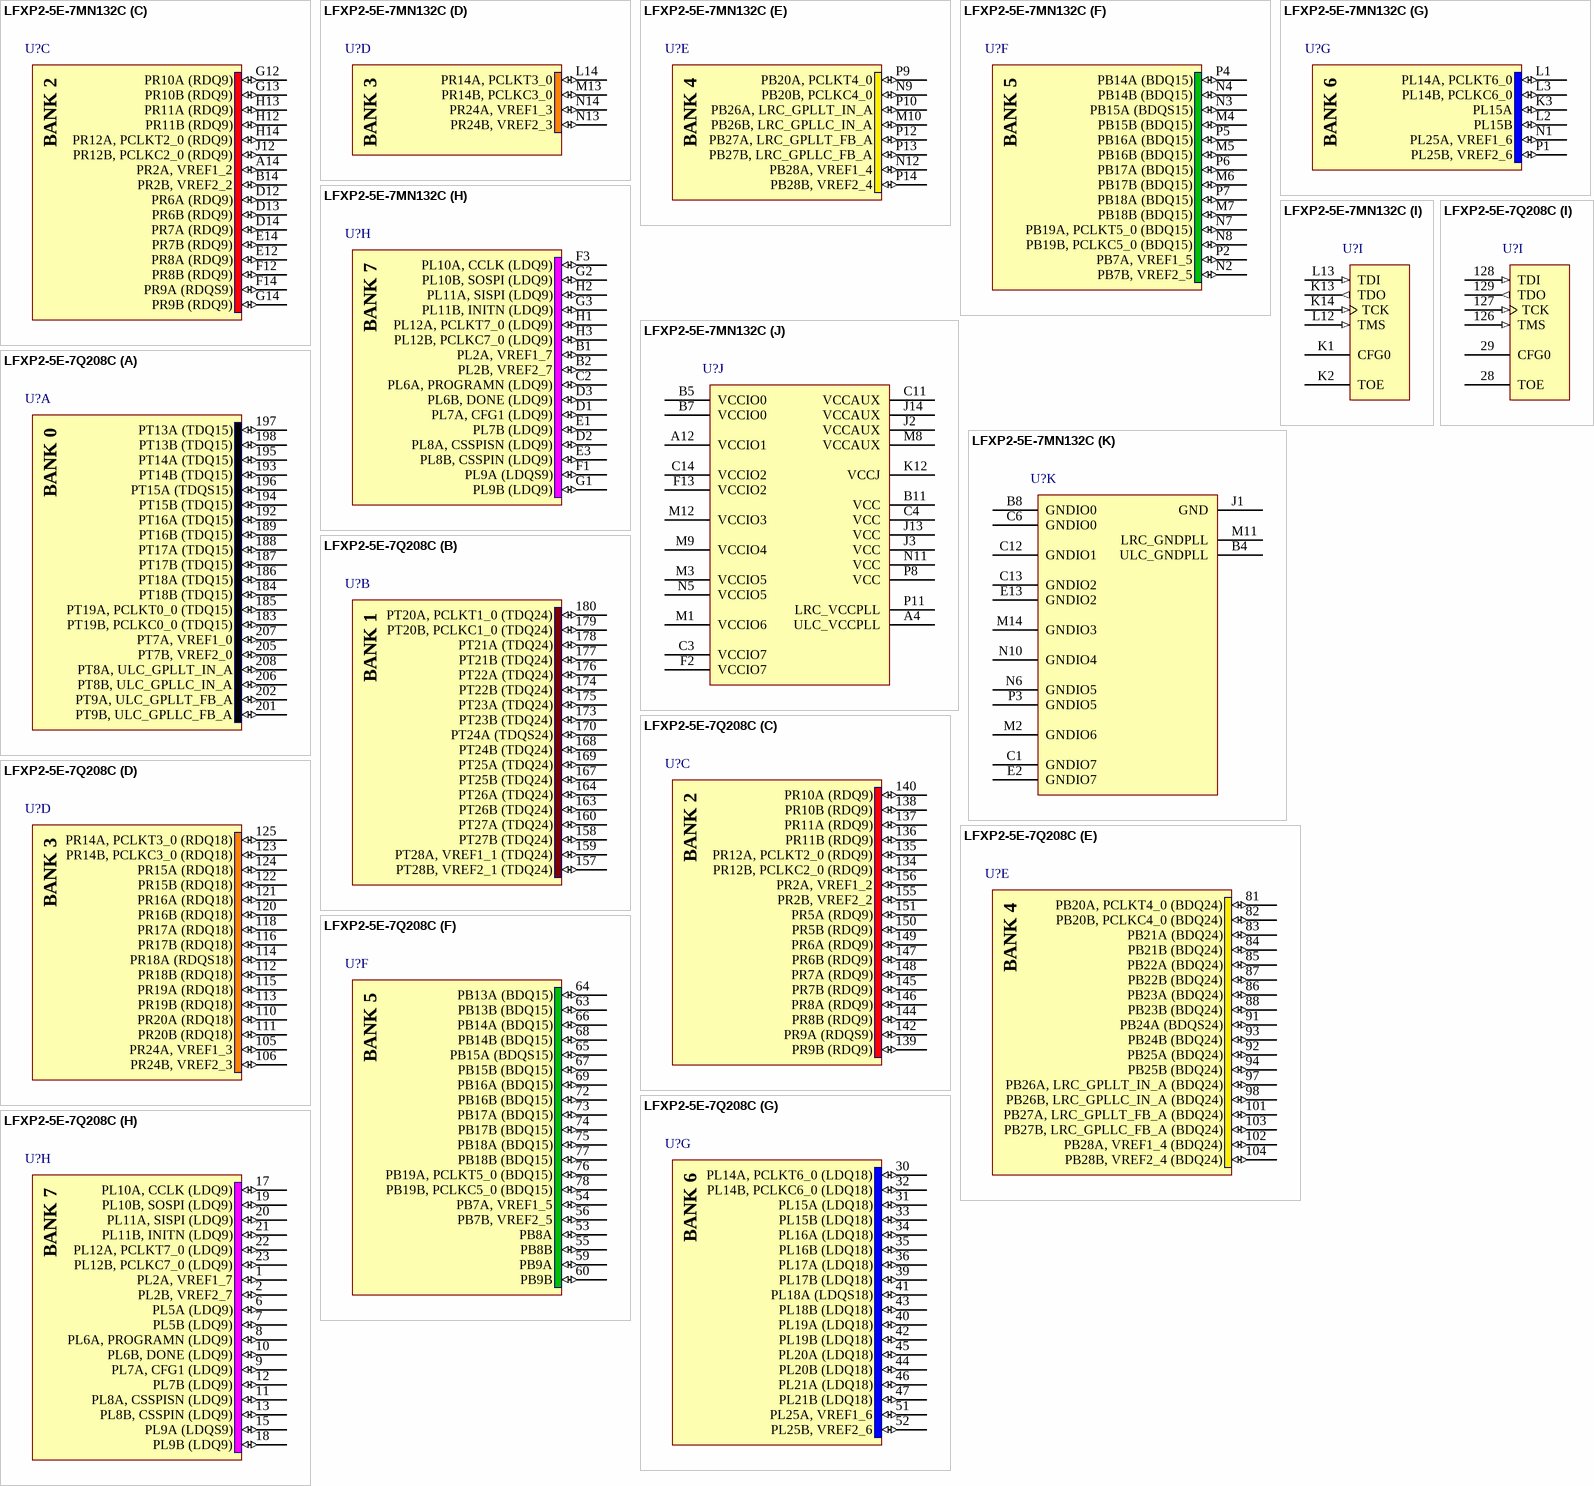
[diagram p22: symbols LFXP2-5E-7MN132C to LFXP2-5E-7Q208C]

## LFXP2-5E-7MN132C
designator U?
XP2, 1.2V FPGA, 86 I/Os, 5K LUTs, 132-Pin csBGA, Speed Grade 7, Commercial Grade, Pb-Free; DatasheetVersion: ver01.8, Jun-2008; PackageVersion: ver02.8, Jul-2011; PackageReference: csBGA132; PackageDescription: 132-Ball Chip Scale Ball Grid Array (csBGA132); ComponentLink1Description: Manufacturer URL; ComponentLink1URL: http://www.latticesemi.com/; ComponentLink2Description: Datasheet; ComponentLink2URL: http://www.latticesemi.com/documents/DS1009.pdf; ComponentLink3Description: Package Specification; ComponentLink3URL: http://www.latticesemi.com/lit/docs/package/pkg.pdf
footprint csBGA132 (BGA, 132-Leads, Body 8x8mm, Pitch 0.5mm)
part A pins: A1 PT8A, ULC_GPLLT_IN_A (io), A2 PT7A, VREF1_0 (io), A3 PT7B, VREF2_0 (io), A5 PT9B, ULC_GPLLC_FB_A (io), A6 PT15A (TDQS15) (io), A7 PT15B (TDQ15) (io), A8 PT17A (TDQ15) (io), A9 PT18A (TDQ15) (io), A10 PT19B, PCLKC0_0 (TDQ15) (io), B3 PT8B, ULC_GPLLC_IN_A (io), B6 PT14A (TDQ15) (io), B9 PT17B (TDQ15) (io), B10 PT19A, PCLKT0_0 (TDQ15) (io), C5 PT9A, ULC_GPLLT_FB_A (io), C7 PT14B (TDQ15) (io), C8 PT16A (TDQ15) (io), C9 PT16B (TDQ15) (io), C10 PT18B (TDQ15) (io)
part B pins: A11 PT20A, PCLKT1_0 (io), A13 PT28B, VREF2_1 (io), B12 PT20B, PCLKC1_0 (io), B13 PT28A, VREF1_1 (io)
part C pins: A14 PR2A, VREF1_2 (io), B14 PR2B, VREF2_2 (io), D12 PR6A (RDQ9) (io), D13 PR6B (RDQ9) (io), D14 PR7A (RDQ9) (io), E12 PR8A (RDQ9) (io), E14 PR7B (RDQ9) (io), F12 PR8B (RDQ9) (io), F14 PR9A (RDQS9) (io), G12 PR10A (RDQ9) (io), G13 PR10B (RDQ9) (io), G14 PR9B (RDQ9) (io), H12 PR11B (RDQ9) (io), H13 PR11A (RDQ9) (io), H14 PR12A, PCLKT2_0 (RDQ9) (io), J12 PR12B, PCLKC2_0 (RDQ9) (io)
part D pins: L14 PR14A, PCLKT3_0 (io), M13 PR14B, PCLKC3_0 (io), N13 PR24B, VREF2_3 (io), N14 PR24A, VREF1_3 (io)
part E pins: M10 PB26B, LRC_GPLLC_IN_A (io), N9 PB20B, PCLKC4_0 (io), N12 PB28A, VREF1_4 (io), P9 PB20A, PCLKT4_0 (io), P10 PB26A, LRC_GPLLT_IN_A (io), P12 PB27A, LRC_GPLLT_FB_A (io), P13 PB27B, LRC_GPLLC_FB_A (io), P14 PB28B, VREF2_4 (io)
part F pins: M4 PB15B (BDQ15) (io), M5 PB16B (BDQ15) (io), M6 PB17B (BDQ15) (io), M7 PB18B (BDQ15) (io), N2 PB7B, VREF2_5 (io), N3 PB15A (BDQS15) (io), N4 PB14B (BDQ15) (io), N7 PB19A, PCLKT5_0 (BDQ15) (io), N8 PB19B, PCLKC5_0 (BDQ15) (io), P2 PB7A, VREF1_5 (io), P4 PB14A (BDQ15) (io), P5 PB16A (BDQ15) (io), P6 PB17A (BDQ15) (io), P7 PB18A (BDQ15) (io)
part G pins: K3 PL15A (io), L1 PL14A, PCLKT6_0 (io), L2 PL15B (io), L3 PL14B, PCLKC6_0 (io), N1 PL25A, VREF1_6 (io), P1 PL25B, VREF2_6 (io)
part H pins: B1 PL2A, VREF1_7 (io), B2 PL2B, VREF2_7 (io), C2 PL6A, PROGRAMN (LDQ9) (io), D1 PL7A, CFG1 (LDQ9) (io), D2 PL8A, CSSPISN (LDQ9) (io), D3 PL6B, DONE (LDQ9) (io), E1 PL7B (LDQ9) (io), E3 PL8B, CSSPIN (LDQ9) (io), F1 PL9A (LDQS9) (io), F3 PL10A, CCLK (LDQ9) (io), G1 PL9B (LDQ9) (io), G2 PL10B, SOSPI (LDQ9) (io), G3 PL11B, INITN (LDQ9) (io), H1 PL12A, PCLKT7_0 (LDQ9) (io), H2 PL11A, SISPI (LDQ9) (io), H3 PL12B, PCLKC7_0 (LDQ9) (io)
part I pins: K1 CFG0, K2 TOE, K13 TDO (out), K14 TCK (in), L12 TMS (in), L13 TDI (in)
part J pins: A4 ULC_VCCPLL (power), A12 VCCIO1 (power), B5 VCCIO0 (power), B7 VCCIO0 (power), B11 VCC (power), C3 VCCIO7 (power), C4 VCC (power), C11 VCCAUX (power), C14 VCCIO2 (power), F2 VCCIO7 (power), F13 VCCIO2 (power), J2 VCCAUX (power), J3 VCC (power), J13 VCC (power), J14 VCCAUX (power), K12 VCCJ (power), M1 VCCIO6 (power), M3 VCCIO5 (power), M8 VCCAUX (power), M9 VCCIO4 (power), M12 VCCIO3 (power), N5 VCCIO5 (power), N11 VCC (power), P8 VCC (power), P11 LRC_VCCPLL (power)
part K pins: B4 ULC_GNDPLL (power), B8 GNDIO0 (power), C1 GNDIO7 (power), C6 GNDIO0 (power), C12 GNDIO1 (power), C13 GNDIO2 (power), E2 GNDIO7 (power), E13 GNDIO2 (power), J1 GND (power), M2 GNDIO6 (power), M11 LRC_GNDPLL (power), M14 GNDIO3 (power), N6 GNDIO5 (power), N10 GNDIO4 (power), P3 GNDIO5 (power)
part A text: BANK 0
part B text: BANK 1
part C text: BANK 2
part D text: BANK 3
part E text: BANK 4
part F text: BANK 5
part G text: BANK 6
part H text: BANK 7

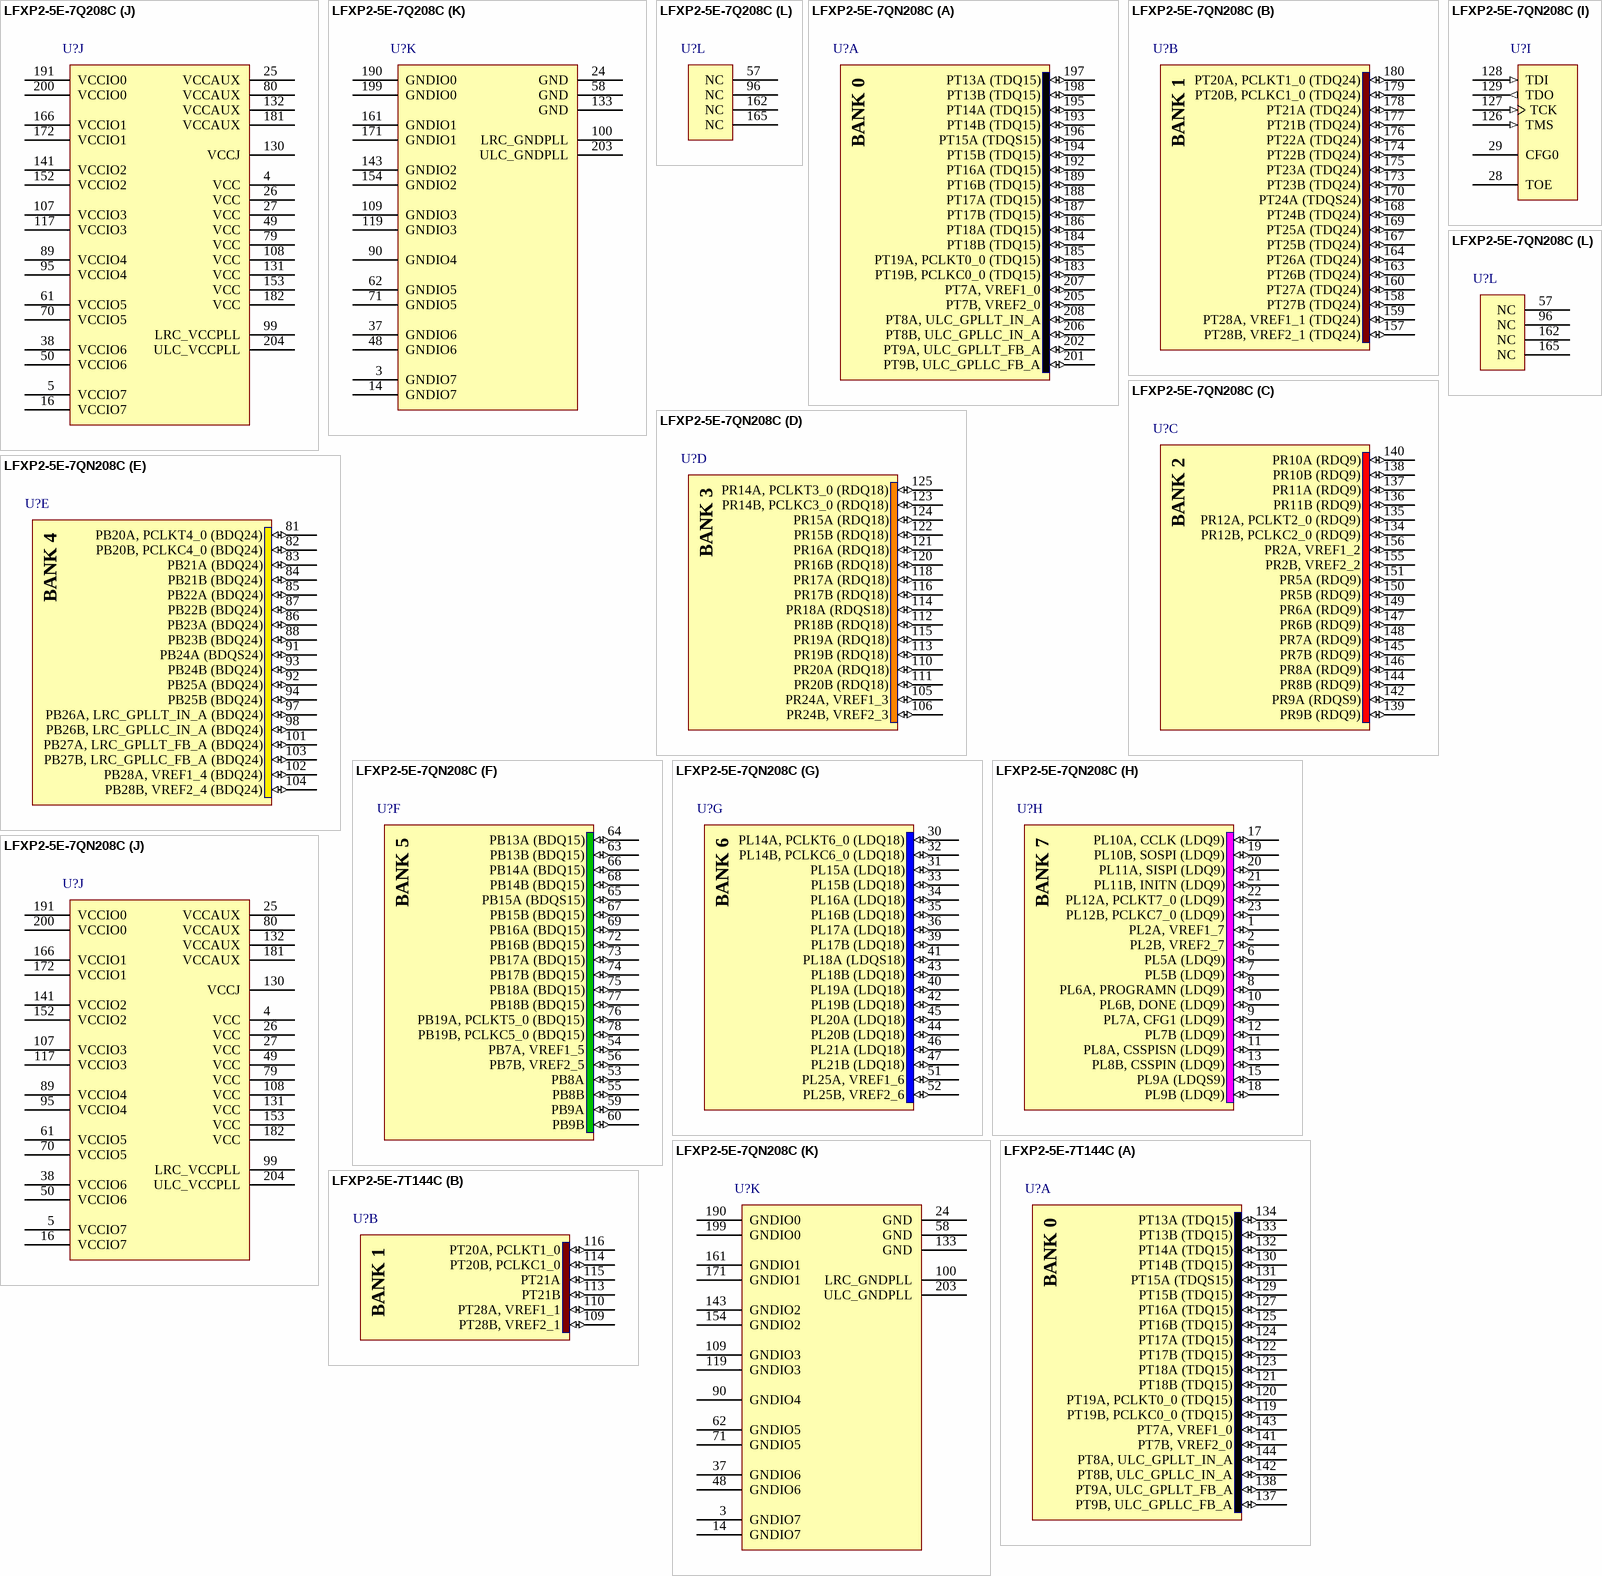
[diagram p23: symbols LFXP2-5E-7Q208C to LFXP2-5E-7T144C]

## LFXP2-5E-7Q208C
designator U?
XP2, 1.2V FPGA, 146 I/Os, 5K LUTs, 208-Pin PQFP, Speed Grade 7, Commercial Grade; DatasheetVersion: ver01.8, Jun-2008; PackageVersion: ver01.8, Dec-2008; PackageReference: PQFP208; PackageDescription: 208-Pin Plastic Quad Flat Pack (PQFP208); Code_JEDEC: MO-143-FAI; ComponentLink1Description: Manufacturer URL; ComponentLink1URL: http://www.latticesemi.com/; ComponentLink2Description: Datasheet; ComponentLink2URL: http://www.latticesemi.com/documents/DS1009.pdf; ComponentLink3Description: Package Specification; ComponentLink3URL: http://www.latticesemi.com/lit/docs/package/pkg.pdf
footprint PQFP208_N (Shrink QFP, 208-Leads, Body 28x28mm, Pitch 0.5mm, IPC Medium Density)
footprint PQFP208_L (Shrink QFP, 208-Leads, Body 28x28mm, Pitch 0.5mm, IPC High Density)
footprint PQFP208_M (Shrink QFP, 208-Leads, Body 28x28mm, Pitch 0.5mm, IPC Low Density)
part A pins: 183 PT19B, PCLKC0_0 (TDQ15) (io), 184 PT18B (TDQ15) (io), 185 PT19A, PCLKT0_0 (TDQ15) (io), 186 PT18A (TDQ15) (io), 187 PT17B (TDQ15) (io), 188 PT17A (TDQ15) (io), 189 PT16B (TDQ15) (io), 192 PT16A (TDQ15) (io), 193 PT14B (TDQ15) (io), 194 PT15B (TDQ15) (io), 195 PT14A (TDQ15) (io), 196 PT15A (TDQS15) (io), 197 PT13A (TDQ15) (io), 198 PT13B (TDQ15) (io), 201 PT9B, ULC_GPLLC_FB_A (io), 202 PT9A, ULC_GPLLT_FB_A (io), 205 PT7B, VREF2_0 (io), 206 PT8B, ULC_GPLLC_IN_A (io), 207 PT7A, VREF1_0 (io), 208 PT8A, ULC_GPLLT_IN_A (io)
part B pins: 157 PT28B, VREF2_1 (TDQ24) (io), 158 PT27B (TDQ24) (io), 159 PT28A, VREF1_1 (TDQ24) (io), 160 PT27A (TDQ24) (io), 163 PT26B (TDQ24) (io), 164 PT26A (TDQ24) (io), 167 PT25B (TDQ24) (io), 168 PT24B (TDQ24) (io), 169 PT25A (TDQ24) (io), 170 PT24A (TDQS24) (io), 173 PT23B (TDQ24) (io), 174 PT22B (TDQ24) (io), 175 PT23A (TDQ24) (io), 176 PT22A (TDQ24) (io), 177 PT21B (TDQ24) (io), 178 PT21A (TDQ24) (io), 179 PT20B, PCLKC1_0 (TDQ24) (io), 180 PT20A, PCLKT1_0 (TDQ24) (io)
part C pins: 134 PR12B, PCLKC2_0 (RDQ9) (io), 135 PR12A, PCLKT2_0 (RDQ9) (io), 136 PR11B (RDQ9) (io), 137 PR11A (RDQ9) (io), 138 PR10B (RDQ9) (io), 139 PR9B (RDQ9) (io), 140 PR10A (RDQ9) (io), 142 PR9A (RDQS9) (io), 144 PR8B (RDQ9) (io), 145 PR7B (RDQ9) (io), 146 PR8A (RDQ9) (io), 147 PR6B (RDQ9) (io), 148 PR7A (RDQ9) (io), 149 PR6A (RDQ9) (io), 150 PR5B (RDQ9) (io), 151 PR5A (RDQ9) (io), 155 PR2B, VREF2_2 (io), 156 PR2A, VREF1_2 (io)
part D pins: 105 PR24A, VREF1_3 (io), 106 PR24B, VREF2_3 (io), 110 PR20A (RDQ18) (io), 111 PR20B (RDQ18) (io), 112 PR18B (RDQ18) (io), 113 PR19B (RDQ18) (io), 114 PR18A (RDQS18) (io), 115 PR19A (RDQ18) (io), 116 PR17B (RDQ18) (io), 118 PR17A (RDQ18) (io), 120 PR16B (RDQ18) (io), 121 PR16A (RDQ18) (io), 122 PR15B (RDQ18) (io), 123 PR14B, PCLKC3_0 (RDQ18) (io), 124 PR15A (RDQ18) (io), 125 PR14A, PCLKT3_0 (RDQ18) (io)
part E pins: 81 PB20A, PCLKT4_0 (BDQ24) (io), 82 PB20B, PCLKC4_0 (BDQ24) (io), 83 PB21A (BDQ24) (io), 84 PB21B (BDQ24) (io), 85 PB22A (BDQ24) (io), 86 PB23A (BDQ24) (io), 87 PB22B (BDQ24) (io), 88 PB23B (BDQ24) (io), 91 PB24A (BDQS24) (io), 92 PB25A (BDQ24) (io), 93 PB24B (BDQ24) (io), 94 PB25B (BDQ24) (io), 97 PB26A, LRC_GPLLT_IN_A (BDQ24) (io), 98 PB26B, LRC_GPLLC_IN_A (BDQ24) (io), 101 PB27A, LRC_GPLLT_FB_A (BDQ24) (io), 102 PB28A, VREF1_4 (BDQ24) (io), 103 PB27B, LRC_GPLLC_FB_A (BDQ24) (io), 104 PB28B, VREF2_4 (BDQ24) (io)
part F pins: 53 PB8A (io), 54 PB7A, VREF1_5 (io), 55 PB8B (io), 56 PB7B, VREF2_5 (io), 59 PB9A (io), 60 PB9B (io), 63 PB13B (BDQ15) (io), 64 PB13A (BDQ15) (io), 65 PB15A (BDQS15) (io), 66 PB14A (BDQ15) (io), 67 PB15B (BDQ15) (io), 68 PB14B (BDQ15) (io), 69 PB16A (BDQ15) (io), 72 PB16B (BDQ15) (io), 73 PB17A (BDQ15) (io), 74 PB17B (BDQ15) (io), 75 PB18A (BDQ15) (io), 76 PB19A, PCLKT5_0 (BDQ15) (io), 77 PB18B (BDQ15) (io), 78 PB19B, PCLKC5_0 (BDQ15) (io)
part G pins: 30 PL14A, PCLKT6_0 (LDQ18) (io), 31 PL15A (LDQ18) (io), 32 PL14B, PCLKC6_0 (LDQ18) (io), 33 PL15B (LDQ18) (io), 34 PL16A (LDQ18) (io), 35 PL16B (LDQ18) (io), 36 PL17A (LDQ18) (io), 39 PL17B (LDQ18) (io), 40 PL19A (LDQ18) (io), 41 PL18A (LDQS18) (io), 42 PL19B (LDQ18) (io), 43 PL18B (LDQ18) (io), 44 PL20B (LDQ18) (io), 45 PL20A (LDQ18) (io), 46 PL21A (LDQ18) (io), 47 PL21B (LDQ18) (io), 51 PL25A, VREF1_6 (io), 52 PL25B, VREF2_6 (io)
part H pins: 1 PL2A, VREF1_7 (io), 2 PL2B, VREF2_7 (io), 6 PL5A (LDQ9) (io), 7 PL5B (LDQ9) (io), 8 PL6A, PROGRAMN (LDQ9) (io), 9 PL7A, CFG1 (LDQ9) (io), 10 PL6B, DONE (LDQ9) (io), 11 PL8A, CSSPISN (LDQ9) (io), 12 PL7B (LDQ9) (io), 13 PL8B, CSSPIN (LDQ9) (io), 15 PL9A (LDQS9) (io), 17 PL10A, CCLK (LDQ9) (io), 18 PL9B (LDQ9) (io), 19 PL10B, SOSPI (LDQ9) (io), 20 PL11A, SISPI (LDQ9) (io), 21 PL11B, INITN (LDQ9) (io), 22 PL12A, PCLKT7_0 (LDQ9) (io), 23 PL12B, PCLKC7_0 (LDQ9) (io)
part I pins: 28 TOE, 29 CFG0, 126 TMS (in), 127 TCK (in), 128 TDI (in), 129 TDO (out)
part J pins: 4 VCC (power), 5 VCCIO7 (power), 16 VCCIO7 (power), 25 VCCAUX (power), 26 VCC (power), 27 VCC (power), 38 VCCIO6 (power), 49 VCC (power), 50 VCCIO6 (power), 61 VCCIO5 (power), 70 VCCIO5 (power), 79 VCC (power), 80 VCCAUX (power), 89 VCCIO4 (power), 95 VCCIO4 (power), 99 LRC_VCCPLL (power), 107 VCCIO3 (power), 108 VCC (power), 117 VCCIO3 (power), 130 VCCJ (power), 131 VCC (power), 132 VCCAUX (power), 141 VCCIO2 (power), 152 VCCIO2 (power), 153 VCC (power), 166 VCCIO1 (power), 172 VCCIO1 (power), 181 VCCAUX (power), 182 VCC (power), 191 VCCIO0 (power), 200 VCCIO0 (power), 204 ULC_VCCPLL (power)
part K pins: 3 GNDIO7 (power), 14 GNDIO7 (power), 24 GND (power), 37 GNDIO6 (power), 48 GNDIO6 (power), 58 GND (power), 62 GNDIO5 (power), 71 GNDIO5 (power), 90 GNDIO4 (power), 100 LRC_GNDPLL (power), 109 GNDIO3 (power), 119 GNDIO3 (power), 133 GND (power), 143 GNDIO2 (power), 154 GNDIO2 (power), 161 GNDIO1 (power), 171 GNDIO1 (power), 190 GNDIO0 (power), 199 GNDIO0 (power), 203 ULC_GNDPLL (power)
part L pins: 57 NC, 96 NC, 162 NC, 165 NC
part A text: BANK 0
part B text: BANK 1
part C text: BANK 2
part D text: BANK 3
part E text: BANK 4
part F text: BANK 5
part G text: BANK 6
part H text: BANK 7

## LFXP2-5E-7QN208C
designator U?
XP2, 1.2V FPGA, 146 I/Os, 5K LUTs, 208-Pin PQFP, Speed Grade 7, Commercial Grade, Pb-Free; DatasheetVersion: ver01.8, Jun-2008; PackageVersion: ver01.8, Dec-2008; PackageReference: PQFP208; PackageDescription: 208-Pin Plastic Quad Flat Pack (PQFP208); Code_JEDEC: MO-143-FAI; ComponentLink1Description: Manufacturer URL; ComponentLink1URL: http://www.latticesemi.com/; ComponentLink2Description: Datasheet; ComponentLink2URL: http://www.latticesemi.com/documents/DS1009.pdf; ComponentLink3Description: Package Specification; ComponentLink3URL: http://www.latticesemi.com/lit/docs/package/pkg.pdf
footprint PQFP208_N (Shrink QFP, 208-Leads, Body 28x28mm, Pitch 0.5mm, IPC Medium Density)
footprint PQFP208_L (Shrink QFP, 208-Leads, Body 28x28mm, Pitch 0.5mm, IPC High Density)
footprint PQFP208_M (Shrink QFP, 208-Leads, Body 28x28mm, Pitch 0.5mm, IPC Low Density)
part A pins: 183 PT19B, PCLKC0_0 (TDQ15) (io), 184 PT18B (TDQ15) (io), 185 PT19A, PCLKT0_0 (TDQ15) (io), 186 PT18A (TDQ15) (io), 187 PT17B (TDQ15) (io), 188 PT17A (TDQ15) (io), 189 PT16B (TDQ15) (io), 192 PT16A (TDQ15) (io), 193 PT14B (TDQ15) (io), 194 PT15B (TDQ15) (io), 195 PT14A (TDQ15) (io), 196 PT15A (TDQS15) (io), 197 PT13A (TDQ15) (io), 198 PT13B (TDQ15) (io), 201 PT9B, ULC_GPLLC_FB_A (io), 202 PT9A, ULC_GPLLT_FB_A (io), 205 PT7B, VREF2_0 (io), 206 PT8B, ULC_GPLLC_IN_A (io), 207 PT7A, VREF1_0 (io), 208 PT8A, ULC_GPLLT_IN_A (io)
part B pins: 157 PT28B, VREF2_1 (TDQ24) (io), 158 PT27B (TDQ24) (io), 159 PT28A, VREF1_1 (TDQ24) (io), 160 PT27A (TDQ24) (io), 163 PT26B (TDQ24) (io), 164 PT26A (TDQ24) (io), 167 PT25B (TDQ24) (io), 168 PT24B (TDQ24) (io), 169 PT25A (TDQ24) (io), 170 PT24A (TDQS24) (io), 173 PT23B (TDQ24) (io), 174 PT22B (TDQ24) (io), 175 PT23A (TDQ24) (io), 176 PT22A (TDQ24) (io), 177 PT21B (TDQ24) (io), 178 PT21A (TDQ24) (io), 179 PT20B, PCLKC1_0 (TDQ24) (io), 180 PT20A, PCLKT1_0 (TDQ24) (io)
part C pins: 134 PR12B, PCLKC2_0 (RDQ9) (io), 135 PR12A, PCLKT2_0 (RDQ9) (io), 136 PR11B (RDQ9) (io), 137 PR11A (RDQ9) (io), 138 PR10B (RDQ9) (io), 139 PR9B (RDQ9) (io), 140 PR10A (RDQ9) (io), 142 PR9A (RDQS9) (io), 144 PR8B (RDQ9) (io), 145 PR7B (RDQ9) (io), 146 PR8A (RDQ9) (io), 147 PR6B (RDQ9) (io), 148 PR7A (RDQ9) (io), 149 PR6A (RDQ9) (io), 150 PR5B (RDQ9) (io), 151 PR5A (RDQ9) (io), 155 PR2B, VREF2_2 (io), 156 PR2A, VREF1_2 (io)
part D pins: 105 PR24A, VREF1_3 (io), 106 PR24B, VREF2_3 (io), 110 PR20A (RDQ18) (io), 111 PR20B (RDQ18) (io), 112 PR18B (RDQ18) (io), 113 PR19B (RDQ18) (io), 114 PR18A (RDQS18) (io), 115 PR19A (RDQ18) (io), 116 PR17B (RDQ18) (io), 118 PR17A (RDQ18) (io), 120 PR16B (RDQ18) (io), 121 PR16A (RDQ18) (io), 122 PR15B (RDQ18) (io), 123 PR14B, PCLKC3_0 (RDQ18) (io), 124 PR15A (RDQ18) (io), 125 PR14A, PCLKT3_0 (RDQ18) (io)
part E pins: 81 PB20A, PCLKT4_0 (BDQ24) (io), 82 PB20B, PCLKC4_0 (BDQ24) (io), 83 PB21A (BDQ24) (io), 84 PB21B (BDQ24) (io), 85 PB22A (BDQ24) (io), 86 PB23A (BDQ24) (io), 87 PB22B (BDQ24) (io), 88 PB23B (BDQ24) (io), 91 PB24A (BDQS24) (io), 92 PB25A (BDQ24) (io), 93 PB24B (BDQ24) (io), 94 PB25B (BDQ24) (io), 97 PB26A, LRC_GPLLT_IN_A (BDQ24) (io), 98 PB26B, LRC_GPLLC_IN_A (BDQ24) (io), 101 PB27A, LRC_GPLLT_FB_A (BDQ24) (io), 102 PB28A, VREF1_4 (BDQ24) (io), 103 PB27B, LRC_GPLLC_FB_A (BDQ24) (io), 104 PB28B, VREF2_4 (BDQ24) (io)
part F pins: 53 PB8A (io), 54 PB7A, VREF1_5 (io), 55 PB8B (io), 56 PB7B, VREF2_5 (io), 59 PB9A (io), 60 PB9B (io), 63 PB13B (BDQ15) (io), 64 PB13A (BDQ15) (io), 65 PB15A (BDQS15) (io), 66 PB14A (BDQ15) (io), 67 PB15B (BDQ15) (io), 68 PB14B (BDQ15) (io), 69 PB16A (BDQ15) (io), 72 PB16B (BDQ15) (io), 73 PB17A (BDQ15) (io), 74 PB17B (BDQ15) (io), 75 PB18A (BDQ15) (io), 76 PB19A, PCLKT5_0 (BDQ15) (io), 77 PB18B (BDQ15) (io), 78 PB19B, PCLKC5_0 (BDQ15) (io)
part G pins: 30 PL14A, PCLKT6_0 (LDQ18) (io), 31 PL15A (LDQ18) (io), 32 PL14B, PCLKC6_0 (LDQ18) (io), 33 PL15B (LDQ18) (io), 34 PL16A (LDQ18) (io), 35 PL16B (LDQ18) (io), 36 PL17A (LDQ18) (io), 39 PL17B (LDQ18) (io), 40 PL19A (LDQ18) (io), 41 PL18A (LDQS18) (io), 42 PL19B (LDQ18) (io), 43 PL18B (LDQ18) (io), 44 PL20B (LDQ18) (io), 45 PL20A (LDQ18) (io), 46 PL21A (LDQ18) (io), 47 PL21B (LDQ18) (io), 51 PL25A, VREF1_6 (io), 52 PL25B, VREF2_6 (io)
part H pins: 1 PL2A, VREF1_7 (io), 2 PL2B, VREF2_7 (io), 6 PL5A (LDQ9) (io), 7 PL5B (LDQ9) (io), 8 PL6A, PROGRAMN (LDQ9) (io), 9 PL7A, CFG1 (LDQ9) (io), 10 PL6B, DONE (LDQ9) (io), 11 PL8A, CSSPISN (LDQ9) (io), 12 PL7B (LDQ9) (io), 13 PL8B, CSSPIN (LDQ9) (io), 15 PL9A (LDQS9) (io), 17 PL10A, CCLK (LDQ9) (io), 18 PL9B (LDQ9) (io), 19 PL10B, SOSPI (LDQ9) (io), 20 PL11A, SISPI (LDQ9) (io), 21 PL11B, INITN (LDQ9) (io), 22 PL12A, PCLKT7_0 (LDQ9) (io), 23 PL12B, PCLKC7_0 (LDQ9) (io)
part I pins: 28 TOE, 29 CFG0, 126 TMS (in), 127 TCK (in), 128 TDI (in), 129 TDO (out)
part J pins: 4 VCC (power), 5 VCCIO7 (power), 16 VCCIO7 (power), 25 VCCAUX (power), 26 VCC (power), 27 VCC (power), 38 VCCIO6 (power), 49 VCC (power), 50 VCCIO6 (power), 61 VCCIO5 (power), 70 VCCIO5 (power), 79 VCC (power), 80 VCCAUX (power), 89 VCCIO4 (power), 95 VCCIO4 (power), 99 LRC_VCCPLL (power), 107 VCCIO3 (power), 108 VCC (power), 117 VCCIO3 (power), 130 VCCJ (power), 131 VCC (power), 132 VCCAUX (power), 141 VCCIO2 (power), 152 VCCIO2 (power), 153 VCC (power), 166 VCCIO1 (power), 172 VCCIO1 (power), 181 VCCAUX (power), 182 VCC (power), 191 VCCIO0 (power), 200 VCCIO0 (power), 204 ULC_VCCPLL (power)
part K pins: 3 GNDIO7 (power), 14 GNDIO7 (power), 24 GND (power), 37 GNDIO6 (power), 48 GNDIO6 (power), 58 GND (power), 62 GNDIO5 (power), 71 GNDIO5 (power), 90 GNDIO4 (power), 100 LRC_GNDPLL (power), 109 GNDIO3 (power), 119 GNDIO3 (power), 133 GND (power), 143 GNDIO2 (power), 154 GNDIO2 (power), 161 GNDIO1 (power), 171 GNDIO1 (power), 190 GNDIO0 (power), 199 GNDIO0 (power), 203 ULC_GNDPLL (power)
part L pins: 57 NC, 96 NC, 162 NC, 165 NC
part A text: BANK 0
part B text: BANK 1
part C text: BANK 2
part D text: BANK 3
part E text: BANK 4
part F text: BANK 5
part G text: BANK 6
part H text: BANK 7

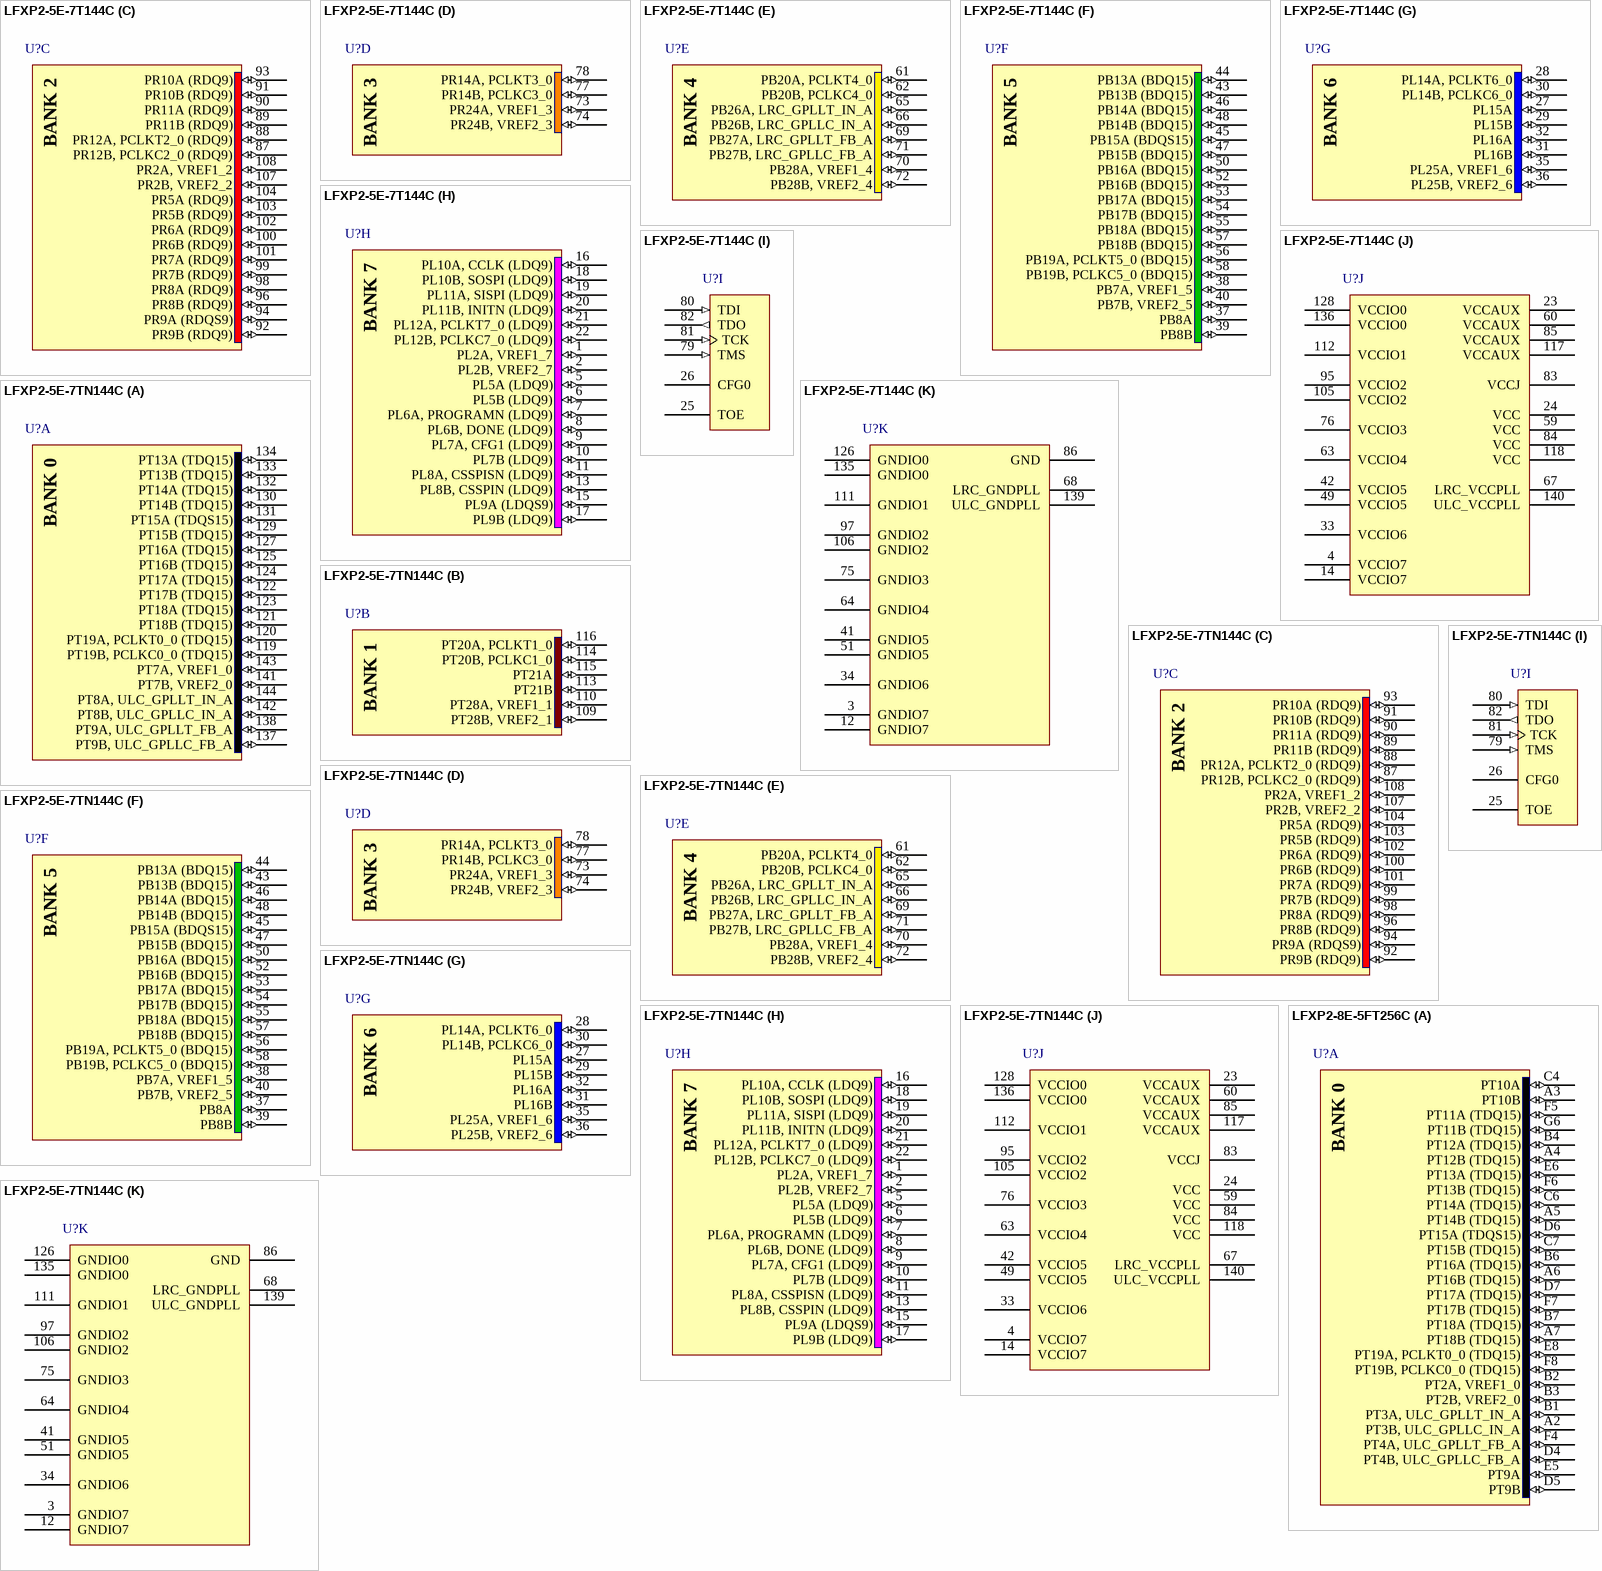
[diagram p24: symbols LFXP2-5E-7T144C to LFXP2-8E-5FT256C]

## LFXP2-5E-7T144C
designator U?
XP2, 1.2V FPGA, 100 I/Os, 5K LUTs, 144-Pin TQFP, Speed Grade 7, Commercial Grade; DatasheetVersion: ver01.8, Jun-2008; PackageVersion: ver02.8, Jul-2011; PackageReference: TQFP144; PackageDescription: 144-Pin Thin Quad Flat Pack (TQFP144); Code_JEDEC: MS-026-BFB; ComponentLink1Description: Manufacturer URL; ComponentLink1URL: http://www.latticesemi.com/; ComponentLink2Description: Datasheet; ComponentLink2URL: http://www.latticesemi.com/documents/DS1009.pdf; ComponentLink3Description: Package Specification; ComponentLink3URL: http://www.latticesemi.com/lit/docs/package/pkg.pdf
footprint TQFP144_N (Thin QFP, 144-Leads, Body 20x20mm, Pitch 0.5mm, IPC Medium Density)
footprint TQFP144_L (Thin QFP, 144-Leads, Body 20x20mm, Pitch 0.5mm, IPC High Density)
footprint TQFP144_M (Thin QFP, 144-Leads, Body 20x20mm, Pitch 0.5mm, IPC Low Density)
part A pins: 119 PT19B, PCLKC0_0 (TDQ15) (io), 120 PT19A, PCLKT0_0 (TDQ15) (io), 121 PT18B (TDQ15) (io), 122 PT17B (TDQ15) (io), 123 PT18A (TDQ15) (io), 124 PT17A (TDQ15) (io), 125 PT16B (TDQ15) (io), 127 PT16A (TDQ15) (io), 129 PT15B (TDQ15) (io), 130 PT14B (TDQ15) (io), 131 PT15A (TDQS15) (io), 132 PT14A (TDQ15) (io), 133 PT13B (TDQ15) (io), 134 PT13A (TDQ15) (io), 137 PT9B, ULC_GPLLC_FB_A (io), 138 PT9A, ULC_GPLLT_FB_A (io), 141 PT7B, VREF2_0 (io), 142 PT8B, ULC_GPLLC_IN_A (io), 143 PT7A, VREF1_0 (io), 144 PT8A, ULC_GPLLT_IN_A (io)
part B pins: 109 PT28B, VREF2_1 (io), 110 PT28A, VREF1_1 (io), 113 PT21B (io), 114 PT20B, PCLKC1_0 (io), 115 PT21A (io), 116 PT20A, PCLKT1_0 (io)
part C pins: 87 PR12B, PCLKC2_0 (RDQ9) (io), 88 PR12A, PCLKT2_0 (RDQ9) (io), 89 PR11B (RDQ9) (io), 90 PR11A (RDQ9) (io), 91 PR10B (RDQ9) (io), 92 PR9B (RDQ9) (io), 93 PR10A (RDQ9) (io), 94 PR9A (RDQS9) (io), 96 PR8B (RDQ9) (io), 98 PR8A (RDQ9) (io), 99 PR7B (RDQ9) (io), 100 PR6B (RDQ9) (io), 101 PR7A (RDQ9) (io), 102 PR6A (RDQ9) (io), 103 PR5B (RDQ9) (io), 104 PR5A (RDQ9) (io), 107 PR2B, VREF2_2 (io), 108 PR2A, VREF1_2 (io)
part D pins: 73 PR24A, VREF1_3 (io), 74 PR24B, VREF2_3 (io), 77 PR14B, PCLKC3_0 (io), 78 PR14A, PCLKT3_0 (io)
part E pins: 61 PB20A, PCLKT4_0 (io), 62 PB20B, PCLKC4_0 (io), 65 PB26A, LRC_GPLLT_IN_A (io), 66 PB26B, LRC_GPLLC_IN_A (io), 69 PB27A, LRC_GPLLT_FB_A (io), 70 PB28A, VREF1_4 (io), 71 PB27B, LRC_GPLLC_FB_A (io), 72 PB28B, VREF2_4 (io)
part F pins: 37 PB8A (io), 38 PB7A, VREF1_5 (io), 39 PB8B (io), 40 PB7B, VREF2_5 (io), 43 PB13B (BDQ15) (io), 44 PB13A (BDQ15) (io), 45 PB15A (BDQS15) (io), 46 PB14A (BDQ15) (io), 47 PB15B (BDQ15) (io), 48 PB14B (BDQ15) (io), 50 PB16A (BDQ15) (io), 52 PB16B (BDQ15) (io), 53 PB17A (BDQ15) (io), 54 PB17B (BDQ15) (io), 55 PB18A (BDQ15) (io), 56 PB19A, PCLKT5_0 (BDQ15) (io), 57 PB18B (BDQ15) (io), 58 PB19B, PCLKC5_0 (BDQ15) (io)
part G pins: 27 PL15A (io), 28 PL14A, PCLKT6_0 (io), 29 PL15B (io), 30 PL14B, PCLKC6_0 (io), 31 PL16B (io), 32 PL16A (io), 35 PL25A, VREF1_6 (io), 36 PL25B, VREF2_6 (io)
part H pins: 1 PL2A, VREF1_7 (io), 2 PL2B, VREF2_7 (io), 5 PL5A (LDQ9) (io), 6 PL5B (LDQ9) (io), 7 PL6A, PROGRAMN (LDQ9) (io), 8 PL6B, DONE (LDQ9) (io), 9 PL7A, CFG1 (LDQ9) (io), 10 PL7B (LDQ9) (io), 11 PL8A, CSSPISN (LDQ9) (io), 13 PL8B, CSSPIN (LDQ9) (io), 15 PL9A (LDQS9) (io), 16 PL10A, CCLK (LDQ9) (io), 17 PL9B (LDQ9) (io), 18 PL10B, SOSPI (LDQ9) (io), 19 PL11A, SISPI (LDQ9) (io), 20 PL11B, INITN (LDQ9) (io), 21 PL12A, PCLKT7_0 (LDQ9) (io), 22 PL12B, PCLKC7_0 (LDQ9) (io)
part I pins: 25 TOE, 26 CFG0, 79 TMS (in), 80 TDI (in), 81 TCK (in), 82 TDO (out)
part J pins: 4 VCCIO7 (power), 14 VCCIO7 (power), 23 VCCAUX (power), 24 VCC (power), 33 VCCIO6 (power), 42 VCCIO5 (power), 49 VCCIO5 (power), 59 VCC (power), 60 VCCAUX (power), 63 VCCIO4 (power), 67 LRC_VCCPLL (power), 76 VCCIO3 (power), 83 VCCJ (power), 84 VCC (power), 85 VCCAUX (power), 95 VCCIO2 (power), 105 VCCIO2 (power), 112 VCCIO1 (power), 117 VCCAUX (power), 118 VCC (power), 128 VCCIO0 (power), 136 VCCIO0 (power), 140 ULC_VCCPLL (power)
part K pins: 3 GNDIO7 (power), 12 GNDIO7 (power), 34 GNDIO6 (power), 41 GNDIO5 (power), 51 GNDIO5 (power), 64 GNDIO4 (power), 68 LRC_GNDPLL (power), 75 GNDIO3 (power), 86 GND (power), 97 GNDIO2 (power), 106 GNDIO2 (power), 111 GNDIO1 (power), 126 GNDIO0 (power), 135 GNDIO0 (power), 139 ULC_GNDPLL (power)
part A text: BANK 0
part B text: BANK 1
part C text: BANK 2
part D text: BANK 3
part E text: BANK 4
part F text: BANK 5
part G text: BANK 6
part H text: BANK 7

## LFXP2-5E-7TN144C
designator U?
XP2, 1.2V FPGA, 100 I/Os, 5K LUTs, 144-Pin TQFP, Speed Grade 7, Commercial Grade, Pb-Free; DatasheetVersion: ver01.8, Jun-2008; PackageVersion: ver02.8, Jul-2011; PackageReference: TQFP144; PackageDescription: 144-Pin Thin Quad Flat Pack (TQFP144); Code_JEDEC: MS-026-BFB; ComponentLink1Description: Manufacturer URL; ComponentLink1URL: http://www.latticesemi.com/; ComponentLink2Description: Datasheet; ComponentLink2URL: http://www.latticesemi.com/documents/DS1009.pdf; ComponentLink3Description: Package Specification; ComponentLink3URL: http://www.latticesemi.com/lit/docs/package/pkg.pdf
footprint TQFP144_N (Thin QFP, 144-Leads, Body 20x20mm, Pitch 0.5mm, IPC Medium Density)
footprint TQFP144_L (Thin QFP, 144-Leads, Body 20x20mm, Pitch 0.5mm, IPC High Density)
footprint TQFP144_M (Thin QFP, 144-Leads, Body 20x20mm, Pitch 0.5mm, IPC Low Density)
part A pins: 119 PT19B, PCLKC0_0 (TDQ15) (io), 120 PT19A, PCLKT0_0 (TDQ15) (io), 121 PT18B (TDQ15) (io), 122 PT17B (TDQ15) (io), 123 PT18A (TDQ15) (io), 124 PT17A (TDQ15) (io), 125 PT16B (TDQ15) (io), 127 PT16A (TDQ15) (io), 129 PT15B (TDQ15) (io), 130 PT14B (TDQ15) (io), 131 PT15A (TDQS15) (io), 132 PT14A (TDQ15) (io), 133 PT13B (TDQ15) (io), 134 PT13A (TDQ15) (io), 137 PT9B, ULC_GPLLC_FB_A (io), 138 PT9A, ULC_GPLLT_FB_A (io), 141 PT7B, VREF2_0 (io), 142 PT8B, ULC_GPLLC_IN_A (io), 143 PT7A, VREF1_0 (io), 144 PT8A, ULC_GPLLT_IN_A (io)
part B pins: 109 PT28B, VREF2_1 (io), 110 PT28A, VREF1_1 (io), 113 PT21B (io), 114 PT20B, PCLKC1_0 (io), 115 PT21A (io), 116 PT20A, PCLKT1_0 (io)
part C pins: 87 PR12B, PCLKC2_0 (RDQ9) (io), 88 PR12A, PCLKT2_0 (RDQ9) (io), 89 PR11B (RDQ9) (io), 90 PR11A (RDQ9) (io), 91 PR10B (RDQ9) (io), 92 PR9B (RDQ9) (io), 93 PR10A (RDQ9) (io), 94 PR9A (RDQS9) (io), 96 PR8B (RDQ9) (io), 98 PR8A (RDQ9) (io), 99 PR7B (RDQ9) (io), 100 PR6B (RDQ9) (io), 101 PR7A (RDQ9) (io), 102 PR6A (RDQ9) (io), 103 PR5B (RDQ9) (io), 104 PR5A (RDQ9) (io), 107 PR2B, VREF2_2 (io), 108 PR2A, VREF1_2 (io)
part D pins: 73 PR24A, VREF1_3 (io), 74 PR24B, VREF2_3 (io), 77 PR14B, PCLKC3_0 (io), 78 PR14A, PCLKT3_0 (io)
part E pins: 61 PB20A, PCLKT4_0 (io), 62 PB20B, PCLKC4_0 (io), 65 PB26A, LRC_GPLLT_IN_A (io), 66 PB26B, LRC_GPLLC_IN_A (io), 69 PB27A, LRC_GPLLT_FB_A (io), 70 PB28A, VREF1_4 (io), 71 PB27B, LRC_GPLLC_FB_A (io), 72 PB28B, VREF2_4 (io)
part F pins: 37 PB8A (io), 38 PB7A, VREF1_5 (io), 39 PB8B (io), 40 PB7B, VREF2_5 (io), 43 PB13B (BDQ15) (io), 44 PB13A (BDQ15) (io), 45 PB15A (BDQS15) (io), 46 PB14A (BDQ15) (io), 47 PB15B (BDQ15) (io), 48 PB14B (BDQ15) (io), 50 PB16A (BDQ15) (io), 52 PB16B (BDQ15) (io), 53 PB17A (BDQ15) (io), 54 PB17B (BDQ15) (io), 55 PB18A (BDQ15) (io), 56 PB19A, PCLKT5_0 (BDQ15) (io), 57 PB18B (BDQ15) (io), 58 PB19B, PCLKC5_0 (BDQ15) (io)
part G pins: 27 PL15A (io), 28 PL14A, PCLKT6_0 (io), 29 PL15B (io), 30 PL14B, PCLKC6_0 (io), 31 PL16B (io), 32 PL16A (io), 35 PL25A, VREF1_6 (io), 36 PL25B, VREF2_6 (io)
part H pins: 1 PL2A, VREF1_7 (io), 2 PL2B, VREF2_7 (io), 5 PL5A (LDQ9) (io), 6 PL5B (LDQ9) (io), 7 PL6A, PROGRAMN (LDQ9) (io), 8 PL6B, DONE (LDQ9) (io), 9 PL7A, CFG1 (LDQ9) (io), 10 PL7B (LDQ9) (io), 11 PL8A, CSSPISN (LDQ9) (io), 13 PL8B, CSSPIN (LDQ9) (io), 15 PL9A (LDQS9) (io), 16 PL10A, CCLK (LDQ9) (io), 17 PL9B (LDQ9) (io), 18 PL10B, SOSPI (LDQ9) (io), 19 PL11A, SISPI (LDQ9) (io), 20 PL11B, INITN (LDQ9) (io), 21 PL12A, PCLKT7_0 (LDQ9) (io), 22 PL12B, PCLKC7_0 (LDQ9) (io)
part I pins: 25 TOE, 26 CFG0, 79 TMS (in), 80 TDI (in), 81 TCK (in), 82 TDO (out)
part J pins: 4 VCCIO7 (power), 14 VCCIO7 (power), 23 VCCAUX (power), 24 VCC (power), 33 VCCIO6 (power), 42 VCCIO5 (power), 49 VCCIO5 (power), 59 VCC (power), 60 VCCAUX (power), 63 VCCIO4 (power), 67 LRC_VCCPLL (power), 76 VCCIO3 (power), 83 VCCJ (power), 84 VCC (power), 85 VCCAUX (power), 95 VCCIO2 (power), 105 VCCIO2 (power), 112 VCCIO1 (power), 117 VCCAUX (power), 118 VCC (power), 128 VCCIO0 (power), 136 VCCIO0 (power), 140 ULC_VCCPLL (power)
part K pins: 3 GNDIO7 (power), 12 GNDIO7 (power), 34 GNDIO6 (power), 41 GNDIO5 (power), 51 GNDIO5 (power), 64 GNDIO4 (power), 68 LRC_GNDPLL (power), 75 GNDIO3 (power), 86 GND (power), 97 GNDIO2 (power), 106 GNDIO2 (power), 111 GNDIO1 (power), 126 GNDIO0 (power), 135 GNDIO0 (power), 139 ULC_GNDPLL (power)
part A text: BANK 0
part B text: BANK 1
part C text: BANK 2
part D text: BANK 3
part E text: BANK 4
part F text: BANK 5
part G text: BANK 6
part H text: BANK 7

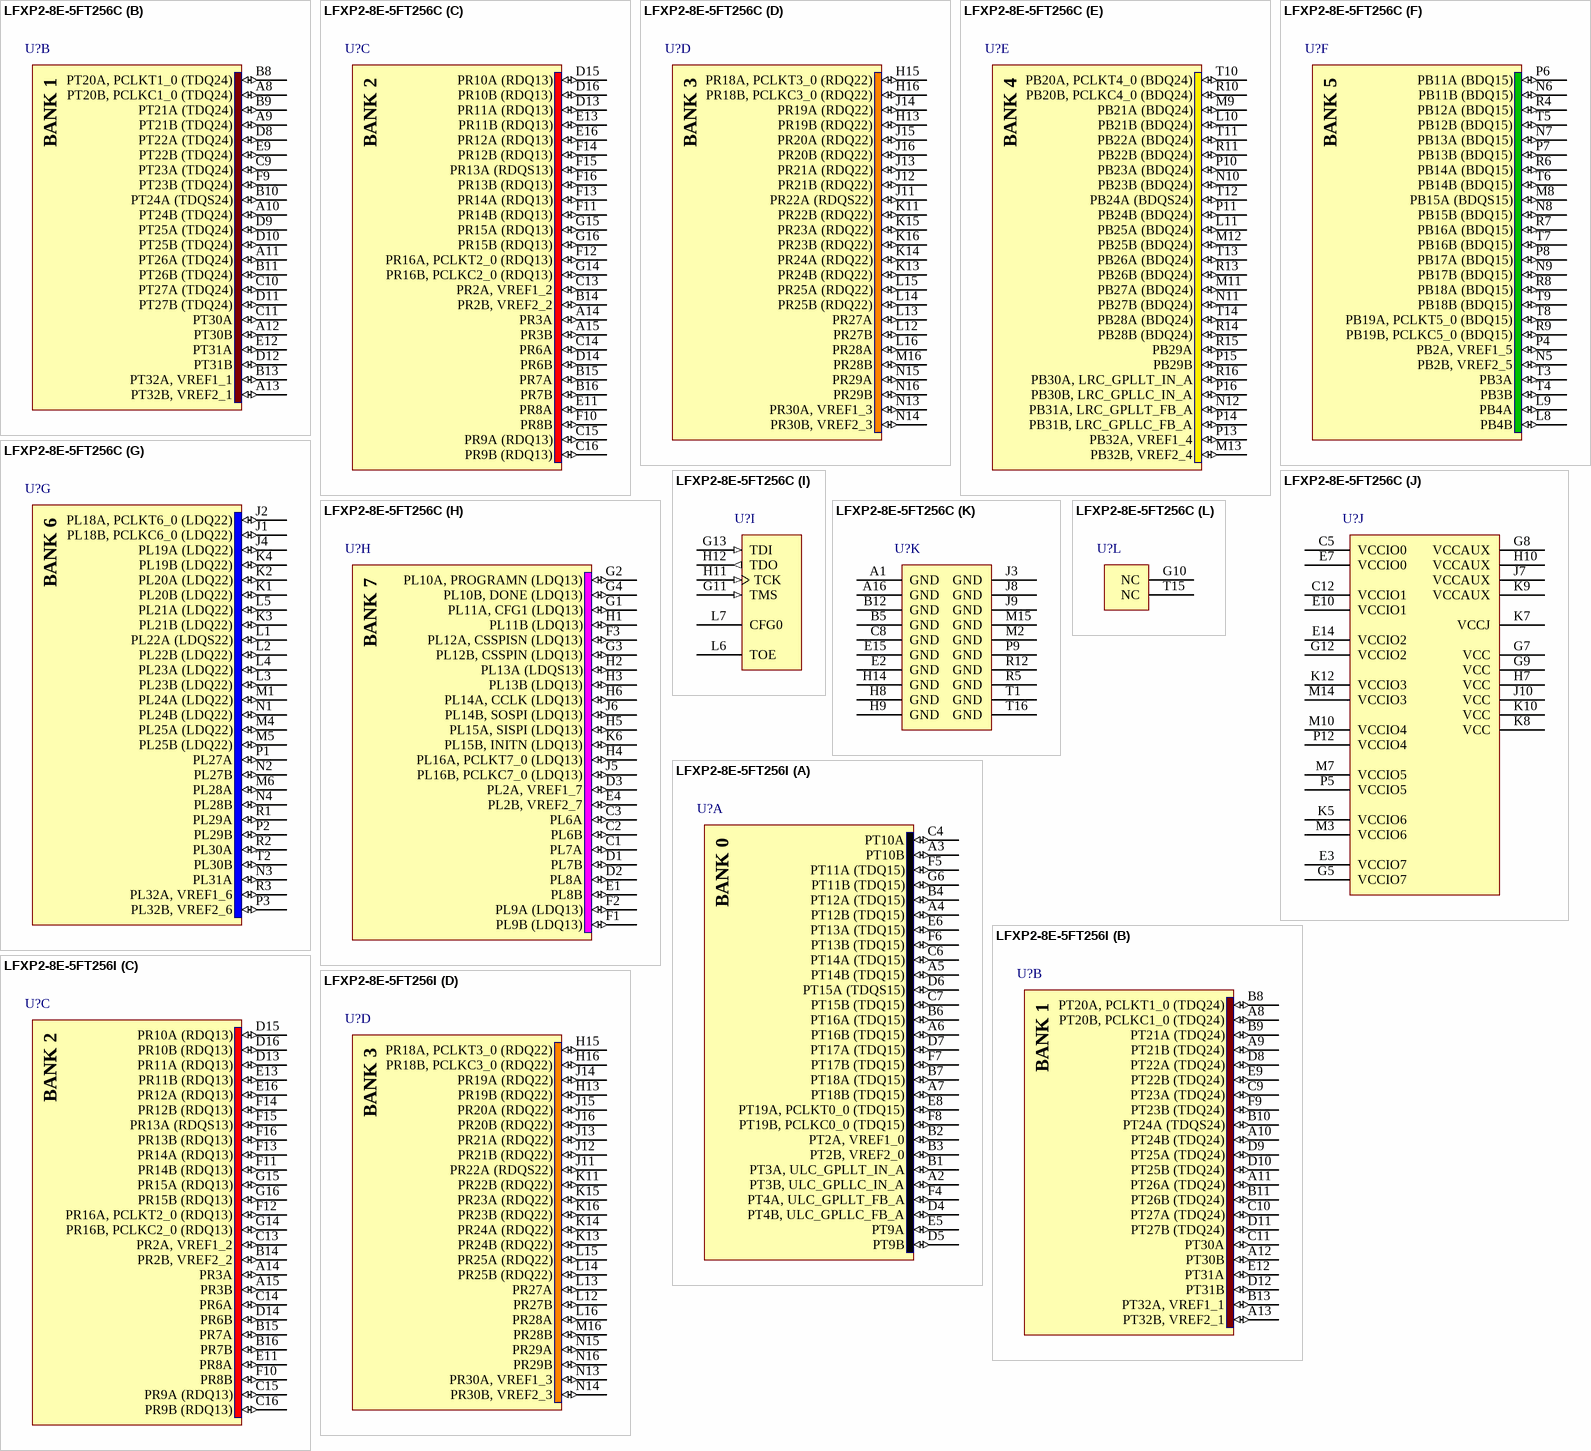
[diagram p25: symbols LFXP2-8E-5FT256C to LFXP2-8E-5FT256I]